# Altium integrated library NSC Interface.IntLib: 504 symbols (part 2 of 16)
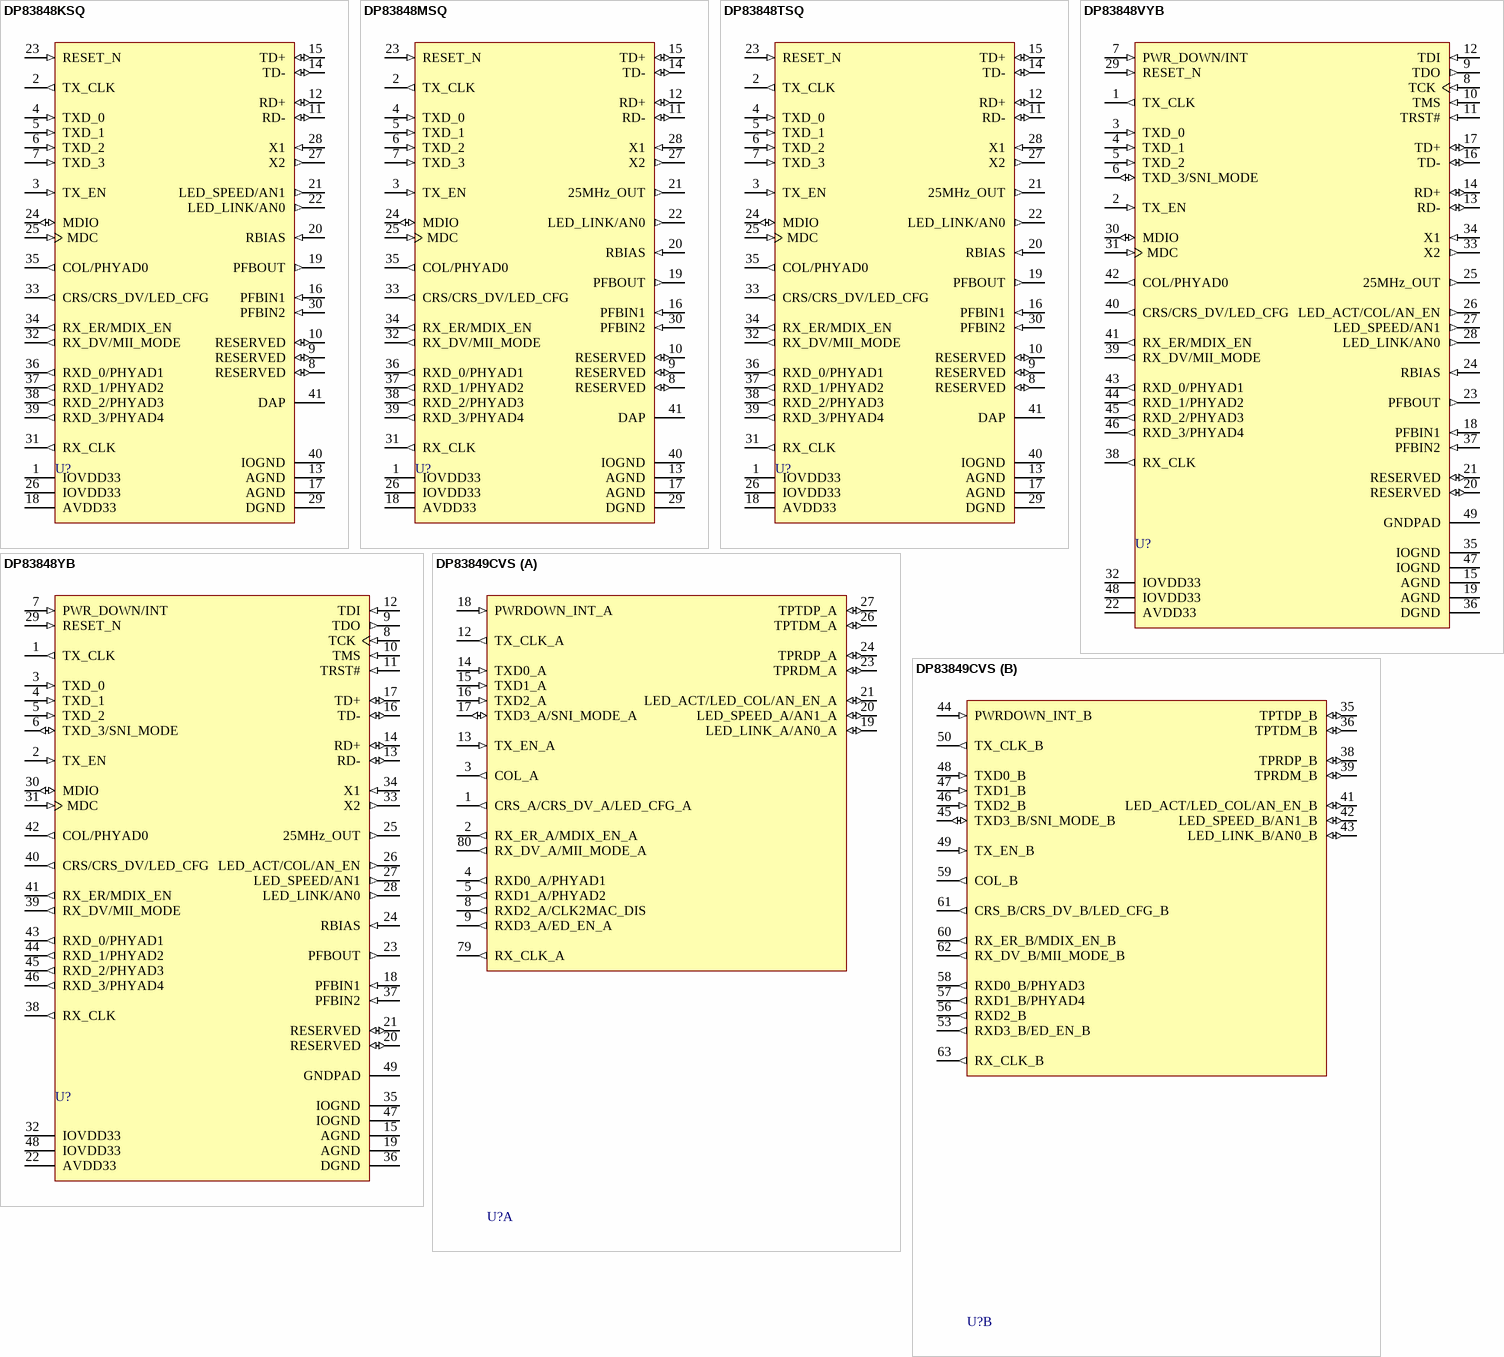
[diagram p42: symbols DP83848KSQ to DP83849CVS]

## DP83848YB
designator U?
PHYTER® Extreme Temperature Single Port 10/100 Mb/s Ethernet Physical Layer Transceiver; PartNumber: DP83848YB; Manufacturer: National Semiconductor; CompType: Interface IC; PackageTopMarking: NSUZXYTT*DP83848YB; PowerWise: N; Published: 4-Dec-2008; DatasheetVersion: Feb-2007; PackageVersion: revA, May-2005; PackageReference: VXH48A; Publisher: Altium Limited; PackageDescription: LQFP, 7 x 7 x 1.4mm, 48 Lead, 0.5mm Pitch, Exposed Pad, 2.2 x 2.2mm; RoHS: O; PinCount: 48; DigiKeyPartNumber: DP83848YBTR-ND; Code_JEDEC: MS-026-ABC; ComponentLink1Description: DP83848YB Datasheet; ComponentLink1URL: http://www.national.com/ds/DP/DP83848YB.pdf; ComponentLink2Description: DP83848YB Web Page; ComponentLink2URL: http://www.national.com/pf/DP/DP83848YB.html; ComponentLink3Description: VXH48A Package Page; ComponentLink3URL: http://www.national.com/packaging/folders/vxh48a.html
footprint VXH48A_N (Thin QFP, 48-Leads, Body 7x7mm, Pitch 0.5mm, Exposed Pad, IPC Medium Density)
footprint VXH48A_L (Thin QFP, 48-Leads, Body 7x7mm, Pitch 0.5mm, Exposed Pad, IPC High Density)
footprint VXH48A_M (Thin QFP, 48-Leads, Body 7x7mm, Pitch 0.5mm, Exposed Pad, IPC Low Density)
pins: 1 TX_CLK (out), 2 TX_EN (in), 3 TXD_0 (in), 4 TXD_1 (in), 5 TXD_2 (in), 6 TXD_3/SNI_MODE (io), 7 PWR_DOWN/INT (in), 8 TCK (in), 9 TDO (out), 10 TMS (in), 11 TRST# (in), 12 TDI (in), 13 RD- (io), 14 RD+ (io), 15 AGND (power), 16 TD- (io), 17 TD+ (io), 18 PFBIN1 (in), 19 AGND (power), 20 RESERVED (io), 21 RESERVED (io), 22 AVDD33 (power), 23 PFBOUT (out), 24 RBIAS (in), 25 25MHz_OUT (out), 26 LED_ACT/COL/AN_EN (out), 27 LED_SPEED/AN1 (out), 28 LED_LINK/AN0 (out), 29 RESET_N (in), 30 MDIO (io), 31 MDC (in), 32 IOVDD33 (power), 33 X2 (out), 34 X1 (in), 35 IOGND (power), 36 DGND (power), 37 PFBIN2 (in), 38 RX_CLK (out), 39 RX_DV/MII_MODE (out), 40 CRS/CRS_DV/LED_CFG (out), 41 RX_ER/MDIX_EN (out), 42 COL/PHYAD0 (out), 43 RXD_0/PHYAD1 (out), 44 RXD_1/PHYAD2 (out), 45 RXD_2/PHYAD3 (out), 46 RXD_3/PHYAD4 (out), 47 IOGND (power), 48 IOVDD33 (power), 49 GNDPAD (power)

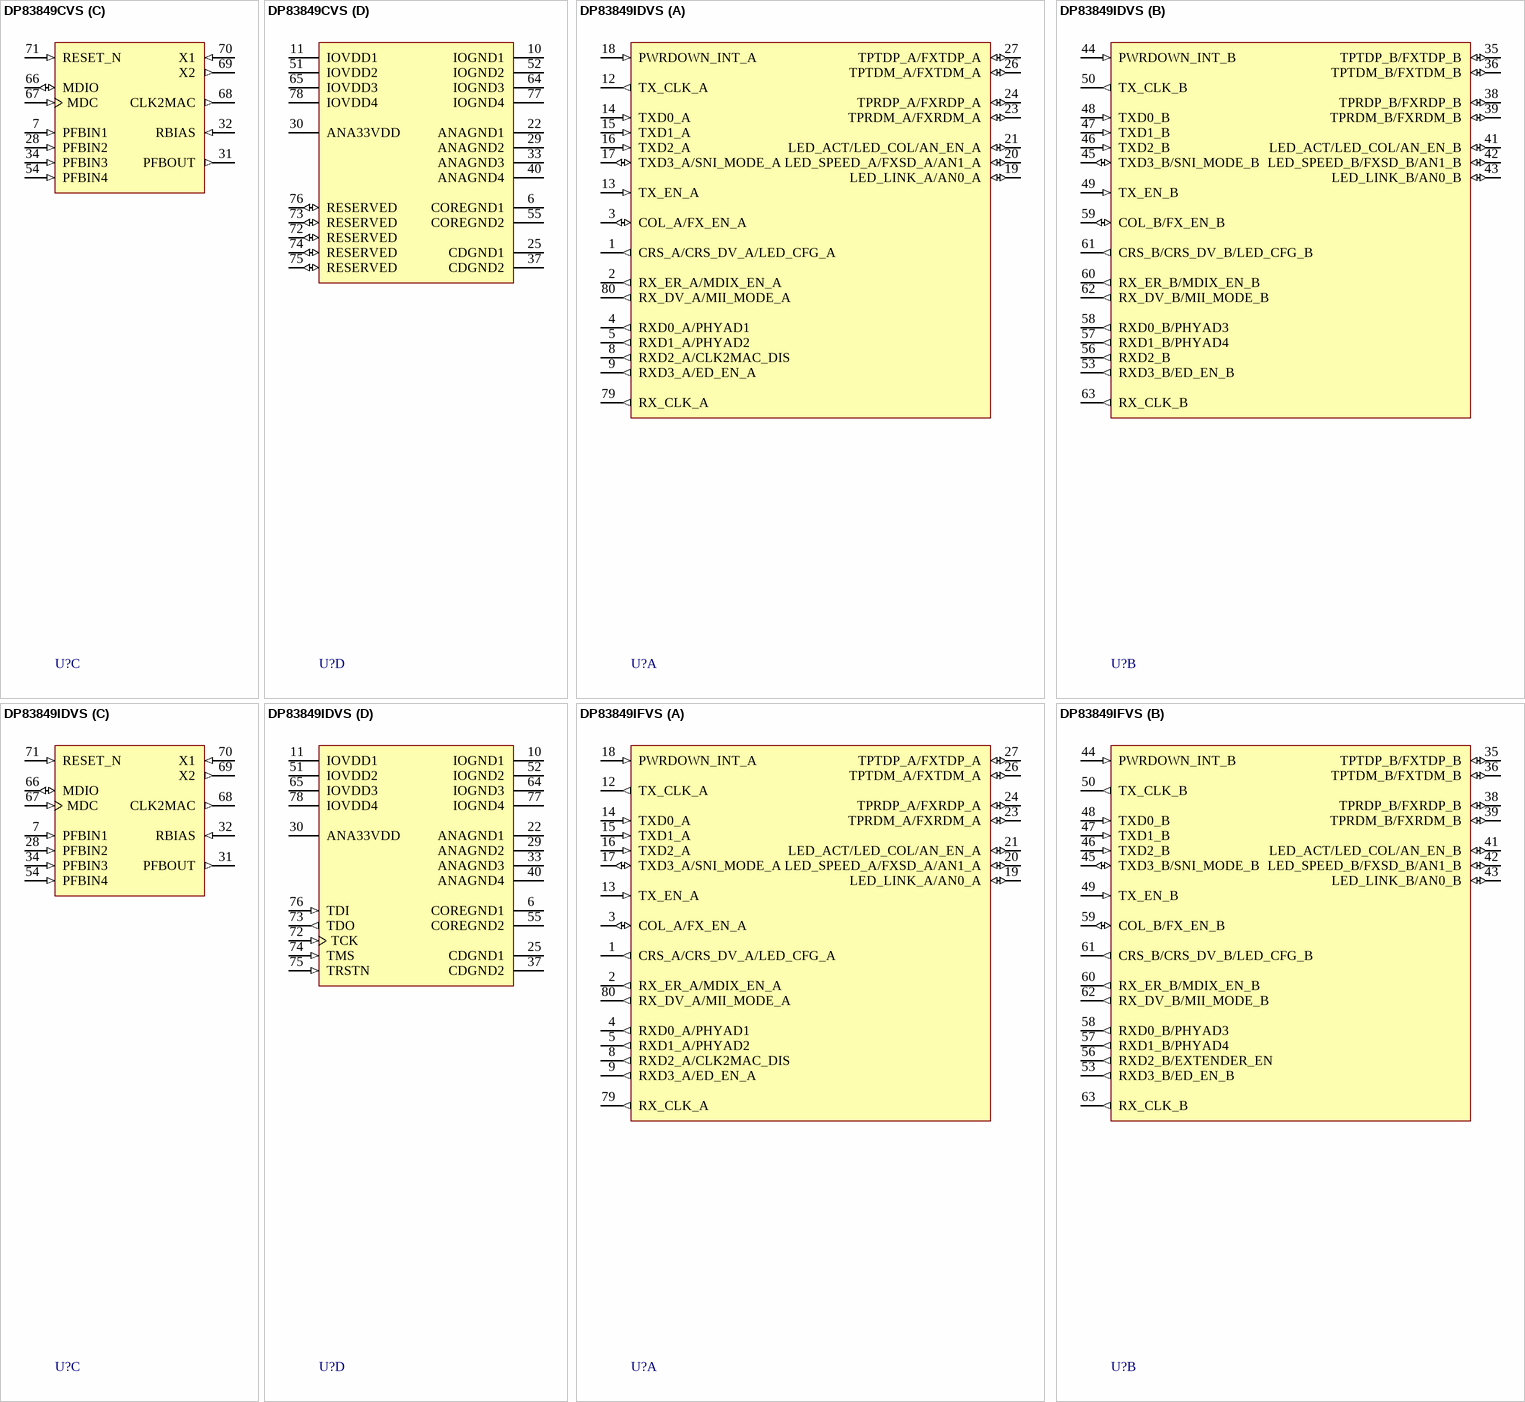
[diagram p4: symbols DP83849CVS to DP83849IFVS]

## DP83849CVS
designator U?
PHYTER® DUAL Commercial Temperature Dual Port 10/100 Mb/s Ethernet Physical Layer Transceiver; PartNumber: DP83849CVS; Manufacturer: National Semiconductor; CompType: Interface IC; PackageTopMarking: NSUZXYTT*DP83849CVS; PowerWise: N; Published: 4-Dec-2008; DatasheetVersion: Aug-2006; PackageVersion: revB, Dec-1999; PackageReference: VHB80A; Publisher: Altium Limited; PackageDescription: LQFP, Jedec, Metric, 12 x 12 x 1.0mm, 80 Lead; RoHS: O; PinCount: 80; DigiKeyPartNumber: DP83849CVS-ND; Code_JEDEC: MS-026-ADD; ComponentLink1Description: DP83849C Datasheet; ComponentLink1URL: http://www.national.com/ds/DP/DP83849C.pdf; ComponentLink2Description: DP83849C Web Page; ComponentLink2URL: http://www.national.com/pf/DP/DP83849C.html; ComponentLink3Description: VHB80A Package Page; ComponentLink3URL: http://www.national.com/packaging/folders/vhb80a.html
footprint VHB80A_N (Thin QFP, 80-Leads, Body 12x12mm, Pitch 0.5mm, IPC Medium Density)
footprint VHB80A_L (Thin QFP, 80-Leads, Body 12x12mm, Pitch 0.5mm, IPC High Density)
footprint VHB80A_M (Thin QFP, 80-Leads, Body 12x12mm, Pitch 0.5mm, IPC Low Density)
part A pins: 1 CRS_A/CRS_DV_A/LED_CFG_A (out), 2 RX_ER_A/MDIX_EN_A (out), 3 COL_A (out), 4 RXD0_A/PHYAD1 (out), 5 RXD1_A/PHYAD2 (out), 8 RXD2_A/CLK2MAC_DIS (out), 9 RXD3_A/ED_EN_A (out), 12 TX_CLK_A (out), 13 TX_EN_A (in), 14 TXD0_A (in), 15 TXD1_A (in), 16 TXD2_A (in), 17 TXD3_A/SNI_MODE_A (io), 18 PWRDOWN_INT_A (in), 19 LED_LINK_A/AN0_A (io), 20 LED_SPEED_A/AN1_A (io), 21 LED_ACT/LED_COL/AN_EN_A (io), 23 TPRDM_A (io), 24 TPRDP_A (io), 26 TPTDM_A (io), 27 TPTDP_A (io), 79 RX_CLK_A (out), 80 RX_DV_A/MII_MODE_A (out)
part B pins: 35 TPTDP_B (io), 36 TPTDM_B (io), 38 TPRDP_B (io), 39 TPRDM_B (io), 41 LED_ACT/LED_COL/AN_EN_B (io), 42 LED_SPEED_B/AN1_B (io), 43 LED_LINK_B/AN0_B (io), 44 PWRDOWN_INT_B (in), 45 TXD3_B/SNI_MODE_B (io), 46 TXD2_B (in), 47 TXD1_B (in), 48 TXD0_B (in), 49 TX_EN_B (in), 50 TX_CLK_B (out), 53 RXD3_B/ED_EN_B (out), 56 RXD2_B (out), 57 RXD1_B/PHYAD4 (out), 58 RXD0_B/PHYAD3 (out), 59 COL_B (out), 60 RX_ER_B/MDIX_EN_B (out), 61 CRS_B/CRS_DV_B/LED_CFG_B (out), 62 RX_DV_B/MII_MODE_B (out), 63 RX_CLK_B (out)
part C pins: 7 PFBIN1 (in), 28 PFBIN2 (in), 31 PFBOUT (out), 32 RBIAS (in), 34 PFBIN3 (in), 54 PFBIN4 (in), 66 MDIO (io), 67 MDC (in), 68 CLK2MAC (out), 69 X2 (out), 70 X1 (in), 71 RESET_N (in)
part D pins: 6 COREGND1 (power), 10 IOGND1 (power), 11 IOVDD1 (power), 22 ANAGND1 (power), 25 CDGND1 (power), 29 ANAGND2 (power), 30 ANA33VDD (power), 33 ANAGND3 (power), 37 CDGND2 (power), 40 ANAGND4 (power), 51 IOVDD2 (power), 52 IOGND2 (power), 55 COREGND2 (power), 64 IOGND3 (power), 65 IOVDD3 (power), 72 RESERVED (io), 73 RESERVED (io), 74 RESERVED (io), 75 RESERVED (io), 76 RESERVED (io), 77 IOGND4 (power), 78 IOVDD4 (power)

## DP83849IDVS
designator U?
PHYTER® DUAL Industrial Temperature with Fiber Support (FX), Dual Port 10/100 Mb/s Ethernet Physical Layer Transceiver; PartNumber: DP83849IDVS; Manufacturer: National Semiconductor; CompType: Interface IC; PackageTopMarking: NSUZXYTT*DP83849IDVS; PowerWise: N; Published: 4-Dec-2008; DatasheetVersion: Aug-2006; PackageVersion: revB, Dec-1999; PackageReference: VHB80A; Publisher: Altium Limited; PackageDescription: LQFP, Jedec, Metric, 12 x 12 x 1.0mm, 80 Lead; RoHS: O; PinCount: 80; DigiKeyPartNumber: DP83849IDVS-ND; Code_JEDEC: MS-026-ADD; ComponentLink1Description: DP83849ID Datasheet; ComponentLink1URL: http://www.national.com/ds/DP/DP83849ID.pdf; ComponentLink2Description: DP83849ID Web Page; ComponentLink2URL: http://www.national.com/pf/DP/DP83849ID.html; ComponentLink3Description: VHB80A Package Page; ComponentLink3URL: http://www.national.com/packaging/folders/vhb80a.html
footprint VHB80A_N (Thin QFP, 80-Leads, Body 12x12mm, Pitch 0.5mm, IPC Medium Density)
footprint VHB80A_L (Thin QFP, 80-Leads, Body 12x12mm, Pitch 0.5mm, IPC High Density)
footprint VHB80A_M (Thin QFP, 80-Leads, Body 12x12mm, Pitch 0.5mm, IPC Low Density)
part A pins: 1 CRS_A/CRS_DV_A/LED_CFG_A (out), 2 RX_ER_A/MDIX_EN_A (out), 3 COL_A/FX_EN_A (io), 4 RXD0_A/PHYAD1 (out), 5 RXD1_A/PHYAD2 (out), 8 RXD2_A/CLK2MAC_DIS (out), 9 RXD3_A/ED_EN_A (out), 12 TX_CLK_A (out), 13 TX_EN_A (in), 14 TXD0_A (in), 15 TXD1_A (in), 16 TXD2_A (in), 17 TXD3_A/SNI_MODE_A (io), 18 PWRDOWN_INT_A (in), 19 LED_LINK_A/AN0_A (io), 20 LED_SPEED_A/FXSD_A/AN1_A (io), 21 LED_ACT/LED_COL/AN_EN_A (io), 23 TPRDM_A/FXRDM_A (io), 24 TPRDP_A/FXRDP_A (io), 26 TPTDM_A/FXTDM_A (io), 27 TPTDP_A/FXTDP_A (io), 79 RX_CLK_A (out), 80 RX_DV_A/MII_MODE_A (out)
part B pins: 35 TPTDP_B/FXTDP_B (io), 36 TPTDM_B/FXTDM_B (io), 38 TPRDP_B/FXRDP_B (io), 39 TPRDM_B/FXRDM_B (io), 41 LED_ACT/LED_COL/AN_EN_B (io), 42 LED_SPEED_B/FXSD_B/AN1_B (io), 43 LED_LINK_B/AN0_B (io), 44 PWRDOWN_INT_B (in), 45 TXD3_B/SNI_MODE_B (io), 46 TXD2_B (in), 47 TXD1_B (in), 48 TXD0_B (in), 49 TX_EN_B (in), 50 TX_CLK_B (out), 53 RXD3_B/ED_EN_B (out), 56 RXD2_B (out), 57 RXD1_B/PHYAD4 (out), 58 RXD0_B/PHYAD3 (out), 59 COL_B/FX_EN_B (io), 60 RX_ER_B/MDIX_EN_B (out), 61 CRS_B/CRS_DV_B/LED_CFG_B (out), 62 RX_DV_B/MII_MODE_B (out), 63 RX_CLK_B (out)
part C pins: 7 PFBIN1 (in), 28 PFBIN2 (in), 31 PFBOUT (out), 32 RBIAS (in), 34 PFBIN3 (in), 54 PFBIN4 (in), 66 MDIO (io), 67 MDC (in), 68 CLK2MAC (out), 69 X2 (out), 70 X1 (in), 71 RESET_N (in)
part D pins: 6 COREGND1 (power), 10 IOGND1 (power), 11 IOVDD1 (power), 22 ANAGND1 (power), 25 CDGND1 (power), 29 ANAGND2 (power), 30 ANA33VDD (power), 33 ANAGND3 (power), 37 CDGND2 (power), 40 ANAGND4 (power), 51 IOVDD2 (power), 52 IOGND2 (power), 55 COREGND2 (power), 64 IOGND3 (power), 65 IOVDD3 (power), 72 TCK (in), 73 TDO (out), 74 TMS (in), 75 TRSTN (in), 76 TDI (in), 77 IOGND4 (power), 78 IOVDD4 (power)

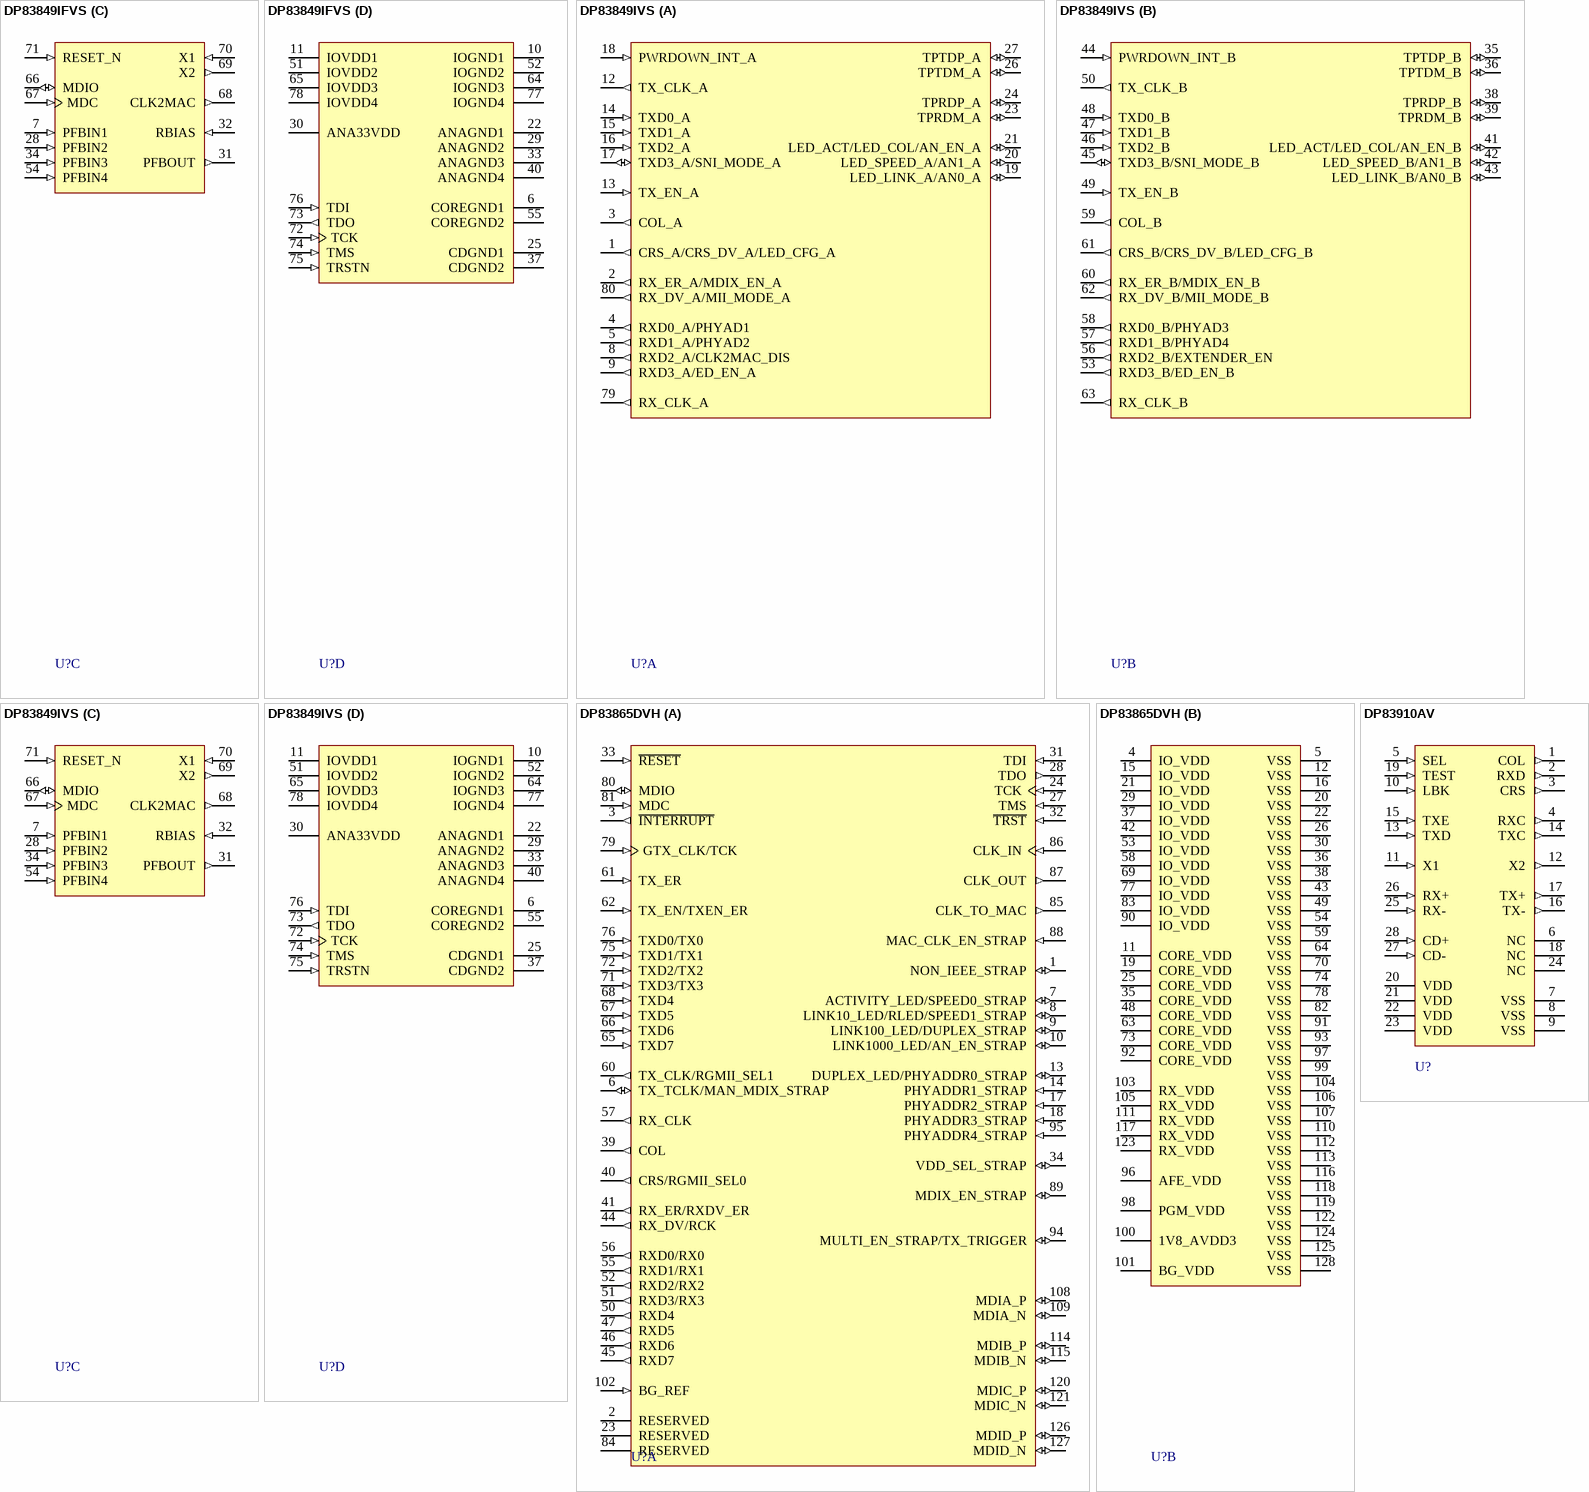
[diagram p5: symbols DP83849IFVS to DP83910AV]

## DP83849IFVS
designator U?
PHYTER® DUAL Industrial Temperature with Fiber Support (FX) and Flexible Port Switching Dual Port 10/100 Mb/s Ethernet Physical Layer Transceiver; PartNumber: DP83849IFVS; Manufacturer: National Semiconductor; CompType: Interface IC; PackageTopMarking: NSUZXYTT*DP83849IFVS; PowerWise: N; Published: 4-Dec-2008; DatasheetVersion: Aug-2006; PackageVersion: revB, Dec-1999; PackageReference: VHB80A; Publisher: Altium Limited; PackageDescription: LQFP, Jedec, Metric, 12 x 12 x 1.0mm, 80 Lead; RoHS: O; PinCount: 80; DigiKeyPartNumber: DP83849IFVS-ND; Code_JEDEC: MS-026-ADD; ComponentLink1Description: DP83849IF Datasheet; ComponentLink1URL: http://www.national.com/ds/DP/DP83849IF.pdf; ComponentLink2Description: DP83849IF Web Page; ComponentLink2URL: http://www.national.com/pf/DP/DP83849IF.html; ComponentLink3Description: VHB80A Package Page; ComponentLink3URL: http://www.national.com/packaging/folders/vhb80a.html
footprint VHB80A_N (Thin QFP, 80-Leads, Body 12x12mm, Pitch 0.5mm, IPC Medium Density)
footprint VHB80A_L (Thin QFP, 80-Leads, Body 12x12mm, Pitch 0.5mm, IPC High Density)
footprint VHB80A_M (Thin QFP, 80-Leads, Body 12x12mm, Pitch 0.5mm, IPC Low Density)
part A pins: 1 CRS_A/CRS_DV_A/LED_CFG_A (out), 2 RX_ER_A/MDIX_EN_A (out), 3 COL_A/FX_EN_A (io), 4 RXD0_A/PHYAD1 (out), 5 RXD1_A/PHYAD2 (out), 8 RXD2_A/CLK2MAC_DIS (out), 9 RXD3_A/ED_EN_A (out), 12 TX_CLK_A (out), 13 TX_EN_A (in), 14 TXD0_A (in), 15 TXD1_A (in), 16 TXD2_A (in), 17 TXD3_A/SNI_MODE_A (io), 18 PWRDOWN_INT_A (in), 19 LED_LINK_A/AN0_A (io), 20 LED_SPEED_A/FXSD_A/AN1_A (io), 21 LED_ACT/LED_COL/AN_EN_A (io), 23 TPRDM_A/FXRDM_A (io), 24 TPRDP_A/FXRDP_A (io), 26 TPTDM_A/FXTDM_A (io), 27 TPTDP_A/FXTDP_A (io), 79 RX_CLK_A (out), 80 RX_DV_A/MII_MODE_A (out)
part B pins: 35 TPTDP_B/FXTDP_B (io), 36 TPTDM_B/FXTDM_B (io), 38 TPRDP_B/FXRDP_B (io), 39 TPRDM_B/FXRDM_B (io), 41 LED_ACT/LED_COL/AN_EN_B (io), 42 LED_SPEED_B/FXSD_B/AN1_B (io), 43 LED_LINK_B/AN0_B (io), 44 PWRDOWN_INT_B (in), 45 TXD3_B/SNI_MODE_B (io), 46 TXD2_B (in), 47 TXD1_B (in), 48 TXD0_B (in), 49 TX_EN_B (in), 50 TX_CLK_B (out), 53 RXD3_B/ED_EN_B (out), 56 RXD2_B/EXTENDER_EN (out), 57 RXD1_B/PHYAD4 (out), 58 RXD0_B/PHYAD3 (out), 59 COL_B/FX_EN_B (io), 60 RX_ER_B/MDIX_EN_B (out), 61 CRS_B/CRS_DV_B/LED_CFG_B (out), 62 RX_DV_B/MII_MODE_B (out), 63 RX_CLK_B (out)
part C pins: 7 PFBIN1 (in), 28 PFBIN2 (in), 31 PFBOUT (out), 32 RBIAS (in), 34 PFBIN3 (in), 54 PFBIN4 (in), 66 MDIO (io), 67 MDC (in), 68 CLK2MAC (out), 69 X2 (out), 70 X1 (in), 71 RESET_N (in)
part D pins: 6 COREGND1 (power), 10 IOGND1 (power), 11 IOVDD1 (power), 22 ANAGND1 (power), 25 CDGND1 (power), 29 ANAGND2 (power), 30 ANA33VDD (power), 33 ANAGND3 (power), 37 CDGND2 (power), 40 ANAGND4 (power), 51 IOVDD2 (power), 52 IOGND2 (power), 55 COREGND2 (power), 64 IOGND3 (power), 65 IOVDD3 (power), 72 TCK (in), 73 TDO (out), 74 TMS (in), 75 TRSTN (in), 76 TDI (in), 77 IOGND4 (power), 78 IOVDD4 (power)

## DP83849IVS
designator U?
PHYTER® DUAL Industrial Temperature with Flexible Port Switching Dual Port 10/100 Mb/s Ethernet Physical Layer Transceiver; PartNumber: DP83849IVS; Manufacturer: National Semiconductor; CompType: Interface IC; PackageTopMarking: NSUZXYTT*DP83849IVS; PowerWise: N; Published: 4-Dec-2008; DatasheetVersion: Aug-2006; PackageVersion: revB, Dec-1999; PackageReference: VHB80A; Publisher: Altium Limited; PackageDescription: LQFP, Jedec, Metric, 12 x 12 x 1.0mm, 80 Lead; RoHS: O; PinCount: 80; DigiKeyPartNumber: DP83849IVSTR-ND; Code_JEDEC: MS-026-ADD; ComponentLink1Description: DP83849I Datasheet; ComponentLink1URL: http://www.national.com/ds/DP/DP83849I.pdf; ComponentLink2Description: DP83849I Web Page; ComponentLink2URL: http://www.national.com/pf/DP/DP83849I.html; ComponentLink3Description: VHB80A Package Page; ComponentLink3URL: http://www.national.com/packaging/folders/vhb80a.html
footprint VHB80A_N (Thin QFP, 80-Leads, Body 12x12mm, Pitch 0.5mm, IPC Medium Density)
footprint VHB80A_L (Thin QFP, 80-Leads, Body 12x12mm, Pitch 0.5mm, IPC High Density)
footprint VHB80A_M (Thin QFP, 80-Leads, Body 12x12mm, Pitch 0.5mm, IPC Low Density)
part A pins: 1 CRS_A/CRS_DV_A/LED_CFG_A (out), 2 RX_ER_A/MDIX_EN_A (out), 3 COL_A (out), 4 RXD0_A/PHYAD1 (out), 5 RXD1_A/PHYAD2 (out), 8 RXD2_A/CLK2MAC_DIS (out), 9 RXD3_A/ED_EN_A (out), 12 TX_CLK_A (out), 13 TX_EN_A (in), 14 TXD0_A (in), 15 TXD1_A (in), 16 TXD2_A (in), 17 TXD3_A/SNI_MODE_A (io), 18 PWRDOWN_INT_A (in), 19 LED_LINK_A/AN0_A (io), 20 LED_SPEED_A/AN1_A (io), 21 LED_ACT/LED_COL/AN_EN_A (io), 23 TPRDM_A (io), 24 TPRDP_A (io), 26 TPTDM_A (io), 27 TPTDP_A (io), 79 RX_CLK_A (out), 80 RX_DV_A/MII_MODE_A (out)
part B pins: 35 TPTDP_B (io), 36 TPTDM_B (io), 38 TPRDP_B (io), 39 TPRDM_B (io), 41 LED_ACT/LED_COL/AN_EN_B (io), 42 LED_SPEED_B/AN1_B (io), 43 LED_LINK_B/AN0_B (io), 44 PWRDOWN_INT_B (in), 45 TXD3_B/SNI_MODE_B (io), 46 TXD2_B (in), 47 TXD1_B (in), 48 TXD0_B (in), 49 TX_EN_B (in), 50 TX_CLK_B (out), 53 RXD3_B/ED_EN_B (out), 56 RXD2_B/EXTENDER_EN (out), 57 RXD1_B/PHYAD4 (out), 58 RXD0_B/PHYAD3 (out), 59 COL_B (out), 60 RX_ER_B/MDIX_EN_B (out), 61 CRS_B/CRS_DV_B/LED_CFG_B (out), 62 RX_DV_B/MII_MODE_B (out), 63 RX_CLK_B (out)
part C pins: 7 PFBIN1 (in), 28 PFBIN2 (in), 31 PFBOUT (out), 32 RBIAS (in), 34 PFBIN3 (in), 54 PFBIN4 (in), 66 MDIO (io), 67 MDC (in), 68 CLK2MAC (out), 69 X2 (out), 70 X1 (in), 71 RESET_N (in)
part D pins: 6 COREGND1 (power), 10 IOGND1 (power), 11 IOVDD1 (power), 22 ANAGND1 (power), 25 CDGND1 (power), 29 ANAGND2 (power), 30 ANA33VDD (power), 33 ANAGND3 (power), 37 CDGND2 (power), 40 ANAGND4 (power), 51 IOVDD2 (power), 52 IOGND2 (power), 55 COREGND2 (power), 64 IOGND3 (power), 65 IOVDD3 (power), 72 TCK (in), 73 TDO (out), 74 TMS (in), 75 TRSTN (in), 76 TDI (in), 77 IOGND4 (power), 78 IOVDD4 (power)

## DP83865DVH
designator U?
Gig PHYTER® V 10/100/1000 Ethernet Physical Layer; PartNumber: DP83865DVH; Manufacturer: National Semiconductor; CompType: Interface IC; PackageTopMarking: NSUZXYYTTE#*DP83865DVH; PowerWise: N; Published: 4-Dec-2008; DatasheetVersion: Oct-2004; PackageVersion: revC, Jun-1998; PackageReference: VLA128A; Publisher: Altium Limited; PackageDescription: PQFP, (S), 14 x 20 x 2.7mm, 128 Lead; RoHS: O; PinCount: 128; DigiKeyPartNumber: DP83865DVH-ND; ComponentLink1Description: DP83865 Datasheet; ComponentLink1URL: http://www.national.com/ds/DP/DP83865.pdf; ComponentLink2Description: DP83865 Web Page; ComponentLink2URL: http://www.national.com/pf/DP/DP83865.html; ComponentLink3Description: VLA128A Package Page; ComponentLink3URL: http://www.national.com/packaging/folders/vla128a.html
footprint VLA128A_N (Shrink QFP, 128-Leads, Body 20x14 mm, Pitch 0.5mm, IPC Medium Density)
footprint VLA128A_L (Shrink QFP, 128-Leads, Body 20x14 mm, Pitch 0.5mm, IPC High Density)
footprint VLA128A_M (Shrink QFP, 128-Leads, Body 20x14 mm, Pitch 0.5mm, IPC Low Density)
part A pins: 1 NON_IEEE_STRAP (io), 2 RESERVED, 3 ~{INTERRUPT} (out), 6 TX_TCLK/MAN_MDIX_STRAP (io), 7 ACTIVITY_LED/SPEED0_STRAP (io), 8 LINK10_LED/RLED/SPEED1_STRAP (io), 9 LINK100_LED/DUPLEX_STRAP (io), 10 LINK1000_LED/AN_EN_STRAP (io), 13 DUPLEX_LED/PHYADDR0_STRAP (io), 14 PHYADDR1_STRAP (in), 17 PHYADDR2_STRAP (in), 18 PHYADDR3_STRAP (in), 23 RESERVED, 24 TCK (in), 27 TMS (in), 28 TDO (out), 31 TDI (in), 32 ~{TRST} (in), 33 ~{RESET} (in), 34 VDD_SEL_STRAP (io), 39 COL (out), 40 CRS/RGMII_SEL0 (out), 41 RX_ER/RXDV_ER (out), 44 RX_DV/RCK (out), 45 RXD7 (out), 46 RXD6 (out), 47 RXD5 (out), 50 RXD4 (out), 51 RXD3/RX3 (out), 52 RXD2/RX2 (out), 55 RXD1/RX1 (out), 56 RXD0/RX0 (out), 57 RX_CLK (out), 60 TX_CLK/RGMII_SEL1 (out), 61 TX_ER (in), 62 TX_EN/TXEN_ER (in), 65 TXD7 (in), 66 TXD6 (in), 67 TXD5 (in), 68 TXD4 (in), 71 TXD3/TX3 (in), 72 TXD2/TX2 (in), 75 TXD1/TX1 (in), 76 TXD0/TX0 (in), 79 GTX_CLK/TCK (in), 80 MDIO (io), 81 MDC (in), 84 RESERVED, 85 CLK_TO_MAC (out), 86 CLK_IN (in), 87 CLK_OUT (out), 88 MAC_CLK_EN_STRAP (in), 89 MDIX_EN_STRAP (io), 94 MULTI_EN_STRAP/TX_TRIGGER (io), 95 PHYADDR4_STRAP (in), 102 BG_REF (in), 108 MDIA_P (io), 109 MDIA_N (io), 114 MDIB_P (io), 115 MDIB_N (io), 120 MDIC_P (io), 121 MDIC_N (io), 126 MDID_P (io), 127 MDID_N (io)
part B pins: 4 IO_VDD (power), 5 VSS (power), 11 CORE_VDD (power), 12 VSS (power), 15 IO_VDD (power), 16 VSS (power), 19 CORE_VDD (power), 20 VSS (power), 21 IO_VDD (power), 22 VSS (power), 25 CORE_VDD (power), 26 VSS (power), 29 IO_VDD (power), 30 VSS (power), 35 CORE_VDD (power), 36 VSS (power), 37 IO_VDD (power), 38 VSS (power), 42 IO_VDD (power), 43 VSS (power), 48 CORE_VDD (power), 49 VSS (power), 53 IO_VDD (power), 54 VSS (power), 58 IO_VDD (power), 59 VSS (power), 63 CORE_VDD (power), 64 VSS (power), 69 IO_VDD (power), 70 VSS (power), 73 CORE_VDD (power), 74 VSS (power), 77 IO_VDD (power), 78 VSS (power), 82 VSS (power), 83 IO_VDD (power), 90 IO_VDD (power), 91 VSS (power), 92 CORE_VDD (power), 93 VSS (power), 96 AFE_VDD (power), 97 VSS (power), 98 PGM_VDD (power), 99 VSS (power), 100 1V8_AVDD3 (power), 101 BG_VDD (power), 103 RX_VDD (power), 104 VSS (power), 105 RX_VDD (power), 106 VSS (power), 107 VSS (power), 110 VSS (power), 111 RX_VDD (power), 112 VSS (power), 113 VSS (power), 116 VSS (power), 117 RX_VDD (power), 118 VSS (power), 119 VSS (power), 122 VSS (power), 123 RX_VDD (power), 124 VSS (power), 125 VSS (power), 128 VSS (power)

## DP83910AV
designator U?
CMOS SNI Serial Network Interface; PartNumber: DP83910AV; Manufacturer: National Semiconductor; CompType: Interface IC; PackageTopMarking: NSUZXYYTT*DP83910AV; PowerWise: N; Published: 4-Dec-2008; DatasheetVersion: May-1995; PackageVersion: revK, Dec-1993; PackageReference: V28A; Publisher: Altium Limited; PackageDescription: Plastic Chip Carrier, Sq., .050mil Lead Pitch, 28 Lead; RoHS: O; PinCount: 28; DigiKeyPartNumber: DP83910AV-ND; Code_IPC: PLCC-28; ComponentLink1Description: DP83910A Datasheet; ComponentLink1URL: http://www.national.com/ds/DP/DP83910A.pdf; ComponentLink2Description: DP83910A Web Page; ComponentLink2URL: http://www.national.com/pf/DP/DP83910A.html; ComponentLink3Description: V28A Package Page; ComponentLink3URL: http://www.national.com/packaging/folders/v28a.html
footprint V28A_N (Leaded Chip Carrier, 28-Leads, Body 11.5x11.5mm, Pitch 1.27mm, IPC Medium Density)
footprint V28A_L (Leaded Chip Carrier, 28-Leads, Body 11.5x11.5mm, Pitch 1.27mm, IPC High Density)
footprint V28A_M (Leaded Chip Carrier, 28-Leads, Body 11.5x11.5mm, Pitch 1.27mm, IPC Low Density)
pins: 1 COL (out), 2 RXD (out), 3 CRS (out), 4 RXC (out), 5 SEL (in), 6 NC, 7 VSS (power), 8 VSS (power), 9 VSS (power), 10 LBK (in), 11 X1 (in), 12 X2 (out), 13 TXD (in), 14 TXC (out), 15 TXE (in), 16 TX- (out), 17 TX+ (out), 18 NC, 19 TEST (in), 20 VDD (power), 21 VDD (power), 22 VDD (power), 23 VDD (power), 24 NC, 25 RX- (in), 26 RX+ (in), 27 CD- (in), 28 CD+ (in)

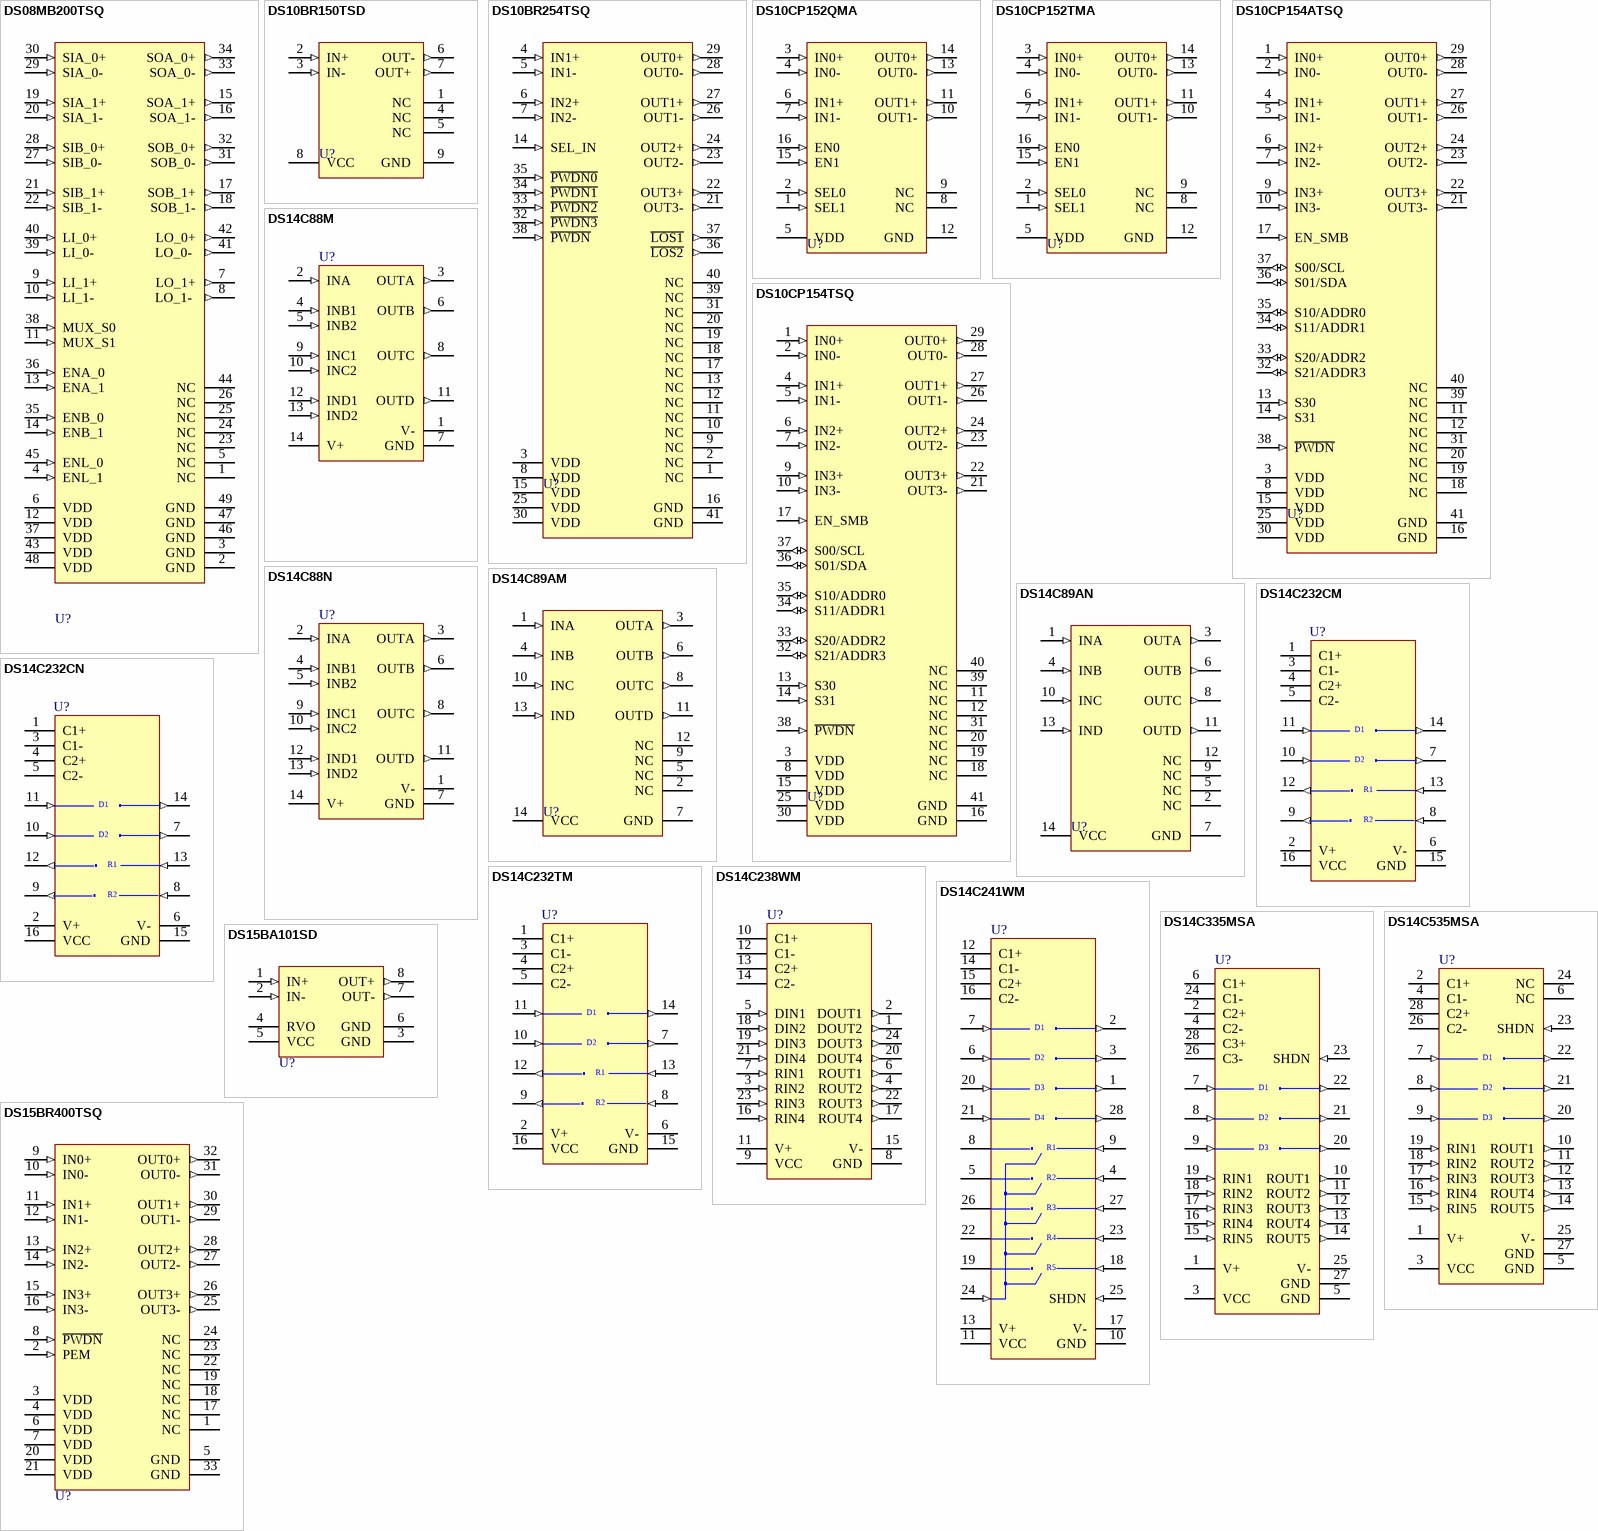
[diagram p6: symbols DS08MB200TSQ to DS15BR400TSQ]

## DS08MB200TSQ
designator U?
Dual 800 Mbps 2:1/1:2 LVDS Mux/Buffer; PartNumber: DS08MB200TSQ; Manufacturer: National Semiconductor; CompType: Interface IC; PackageTopMarking: NS*UZXYTT*08MB200; PowerWise: N; Published: 4-Dec-2008; DatasheetVersion: Nov-2007; PackageVersion: revA, May-2003; PackageReference: SQA48A; Publisher: Altium Limited; PackageDescription: LLP, Plastic, Quad, 7 x 7 x 0.8mm Body, 48 Lead, 0.5mm Pitch, No Pullback; RoHS: Y; PinCount: 48; DigiKeyPartNumber: DS08MB200TSQTR-ND; Code_JEDEC: MO-220-WKKD-2; ComponentLink1Description: DS08MB200 Datasheet; ComponentLink1URL: http://www.national.com/ds/DS/DS08MB200.pdf; ComponentLink2Description: DS08MB200 Web Page; ComponentLink2URL: http://www.national.com/pf/DS/DS08MB200.html; ComponentLink3Description: SQA48A Package Page; ComponentLink3URL: http://www.national.com/packaging/folders/sqa48a.html
footprint SQA48A (QFN, 48-Leads, Body 7x7mm, Pitch 0.5mm, NSC Recommended)
pins: 1 NC, 2 GND (power), 3 GND (power), 4 ENL_1  (in), 5 NC, 6 VDD (power), 7 LO_1+ (out), 8 LO_1-  (out), 9 LI_1+ (in), 10 LI_1-  (in), 11 MUX_S1  (in), 12 VDD (power), 13 ENA_1  (in), 14 ENB_1  (in), 15 SOA_1+ (out), 16 SOA_1- (out), 17 SOB_1+ (out), 18 SOB_1- (out), 19 SIA_1+ (in), 20 SIA_1- (in), 21 SIB_1+ (in), 22 SIB_1- (in), 23 NC, 24 NC, 25 NC, 26 NC, 27 SIB_0- (in), 28 SIB_0+ (in), 29 SIA_0- (in), 30 SIA_0+ (in), 31 SOB_0- (out), 32 SOB_0+ (out), 33 SOA_0- (out), 34 SOA_0+ (out), 35 ENB_0  (in), 36 ENA_0  (in), 37 VDD (power), 38 MUX_S0  (in), 39 LI_0-  (in), 40 LI_0+ (in), 41 LO_0-  (out), 42 LO_0+ (out), 43 VDD (power), 44 NC, 45 ENL_0  (in), 46 GND (power), 47 GND (power), 48 VDD (power), 49 GND (power)

## DS10BR150TSD
designator U?
1.0 Gbps LVDS Buffer/Repeater; PartNumber: DS10BR150TSD; Manufacturer: National Semiconductor; CompType: Interface IC; PackageTopMarking: ZXYTT*1R150; PowerWise: N; Published: 4-Dec-2008; DatasheetVersion: Nov-2007; PackageVersion: revA, Aug-2003; PackageReference: SDA08A; Publisher: Altium Limited; PackageDescription: LLP, Plastic, Dual, 3 x 3 x 0.8mm Body, 8 Lead, 0.5mm Pitch, No Pullback; RoHS: Y; PinCount: 8; DigiKeyPartNumber: DS10BR150TSDTR-ND; ComponentLink1Description: DS10BR150 Datasheet; ComponentLink1URL: http://www.national.com/ds/DS/DS10BR150.pdf; ComponentLink2Description: DS10BR150 Web Page; ComponentLink2URL: http://www.national.com/pf/DS/DS10BR150.html; ComponentLink3Description: SDA08A Package Page; ComponentLink3URL: http://www.national.com/packaging/folders/sda08a.html
footprint SDA08A (SON, 8-Leads, Body 3x3mm, Pitch 0.5mm, NSC Recommended)
pins: 1 NC , 2 IN+  (in), 3 IN- (in), 4 NC , 5 NC , 6 OUT- (out), 7 OUT+  (out), 8 VCC  (power), 9 GND  (power)

## DS10BR254TSQ
designator U?
1.5 Gbps 1:4 LVDS Repeater; PartNumber: DS10BR254TSQ; Manufacturer: National Semiconductor; CompType: Interface IC; PackageTopMarking: NS*UZXYTT*1BR254SQ; PowerWise: N; Published: 4-Dec-2008; DatasheetVersion: Apr-2008; PackageVersion: revB, Mar-2004; PackageReference: SQA40A; Publisher: Altium Limited; PackageDescription: LLP, Plastic, Quad, 6 x 6 x 0.8mm Body, 40 Lead, 0.5mm Pitch, No Pullback; RoHS: Y; PinCount: 40; DigiKeyPartNumber: DS10BR254TSQTR-ND; ComponentLink1Description: DS10BR254 Datasheet; ComponentLink1URL: http://www.national.com/ds/DS/DS10BR254.pdf; ComponentLink2Description: DS10BR254 Web Page; ComponentLink2URL: http://www.national.com/pf/DS/DS10BR254.html; ComponentLink3Description: SQA40A Package Page; ComponentLink3URL: http://www.national.com/packaging/folders/sqa40a.html
footprint SQA40A (QFN, 40-Leads, Body 6x6mm, Pitch 0.5mm, NSC Recommended)
pins: 1 NC, 2 NC, 3 VDD (power), 4 IN1+ (in), 5 IN1- (in), 6 IN2+ (in), 7 IN2- (in), 8 VDD (power), 9 NC, 10 NC, 11 NC, 12 NC, 13 NC, 14 SEL_IN (in), 15 VDD (power), 16 GND (power), 17 NC, 18 NC, 19 NC, 20 NC, 21 OUT3- (out), 22 OUT3+ (out), 23 OUT2- (out), 24 OUT2+ (out), 25 VDD (power), 26 OUT1- (out), 27 OUT1+ (out), 28 OUT0- (out), 29 OUT0+ (out), 30 VDD (power), 31 NC, 32 ~{PWDN3} (in), 33 ~{PWDN2} (in), 34 ~{PWDN1} (in), 35 ~{PWDN0} (in), 36 ~{LOS2} (out), 37 ~{LOS1} (out), 38 ~{PWDN} (in), 39 NC, 40 NC, 41 GND (power)

## DS10CP152QMA
designator U?
Automotive 1.5 Gbps 2X2 LVDS Crosspoint Switch; PartNumber: DS10CP152QMA; Manufacturer: National Semiconductor; CompType: Interface IC; PackageTopMarking: NSUZXYTT*DS10CP152*QMA; PowerWise: N; Published: 4-Dec-2008; DatasheetVersion: Jun-2008; PackageVersion: revJ, Aug-1995; PackageReference: M16A; Publisher: Altium Limited; RoHS: Y; PinCount: 16; DigiKeyPartNumber: DS10CP152QMACT-ND; Code_JEDEC: MS-012-AC; Code_IPC: SOIC127P600-16; ComponentLink1Description: DS10CP152Q Datasheet; ComponentLink1URL: http://www.national.com/ds/DS/DS10CP152Q.pdf; ComponentLink2Description: DS10CP152Q Web Page; ComponentLink2URL: http://www.national.com/pf/DS/DS10CP152Q.html; ComponentLink3Description: M16A Package Page; ComponentLink3URL: http://www.national.com/packaging/folders/m16a.html
footprint M16A_N (SOIC, 16-Leads, Body 9.9x3.9mm, Pitch 1.27mm, IPC Medium Density)
footprint M16A_L (SOIC, 16-Leads, Body 9.9x3.9mm, Pitch 1.27mm, IPC High Density)
footprint M16A_M (SOIC, 16-Leads, Body 9.9x3.9mm, Pitch 1.27mm, IPC Low Density)
pins: 1 SEL1 (in), 2 SEL0 (in), 3 IN0+ (in), 4 IN0- (in), 5 VDD (power), 6 IN1+ (in), 7 IN1- (in), 8 NC , 9 NC , 10 OUT1- (out), 11 OUT1+ (out), 12 GND  (power), 13 OUT0- (out), 14 OUT0+ (out), 15 EN1 (in), 16 EN0 (in)

## DS10CP152TMA
designator U?
1.5 Gbps 2X2 LVDS Crosspoint Switch; PartNumber: DS10CP152TMA; Manufacturer: National Semiconductor; CompType: Interface IC; PackageTopMarking: NSUZXYTT*DS10CP152*TMA; PowerWise: N; Published: 4-Dec-2008; DatasheetVersion: Mar-2008; PackageVersion: revJ, Aug-1995; PackageReference: M16A; Publisher: Altium Limited; PackageDescription: Molded Package, S.O., .150in Wide, 16 Lead; RoHS: Y; PinCount: 16; DigiKeyPartNumber: DS10CP152TMA-ND; Code_JEDEC: MS-012-AC; Code_IPC: SOIC127P600-16; ComponentLink1Description: DS10CP152 Datasheet; ComponentLink1URL: http://www.national.com/ds/DS/DS10CP152.pdf; ComponentLink2Description: DS10CP152 Web Page; ComponentLink2URL: http://www.national.com/pf/DS/DS10CP152.html; ComponentLink3Description: M16A Package Page; ComponentLink3URL: http://www.national.com/packaging/folders/m16a.html
footprint M16A_N (SOIC, 16-Leads, Body 9.9x3.9mm, Pitch 1.27mm, IPC Medium Density)
footprint M16A_L (SOIC, 16-Leads, Body 9.9x3.9mm, Pitch 1.27mm, IPC High Density)
footprint M16A_M (SOIC, 16-Leads, Body 9.9x3.9mm, Pitch 1.27mm, IPC Low Density)
pins: 1 SEL1 (in), 2 SEL0 (in), 3 IN0+ (in), 4 IN0- (in), 5 VDD (power), 6 IN1+ (in), 7 IN1- (in), 8 NC , 9 NC , 10 OUT1- (out), 11 OUT1+ (out), 12 GND  (power), 13 OUT0- (out), 14 OUT0+ (out), 15 EN1 (in), 16 EN0 (in)

## DS10CP154ATSQ
designator U?
1.5 Gbps 4x4 LVDS Crosspoint Switch; PartNumber: DS10CP154ATSQ; Manufacturer: National Semiconductor; CompType: Interface IC; PackageTopMarking: NS*UZXYTT*1CP154AS; PowerWise: Y; Published: 4-Dec-2008; DatasheetVersion: Aug-2008; PackageVersion: revB, Mar-2004; PackageReference: SQA40A; Publisher: Altium Limited; RoHS: Y; PinCount: 40; DigiKeyPartNumber: DS10CP154ATSQCT-ND; ComponentLink1Description: DS10CP154A Datasheet; ComponentLink1URL: http://www.national.com/ds/DS/DS10CP154A.pdf; ComponentLink2Description: DS10CP154A Web Page; ComponentLink2URL: http://www.national.com/pf/DS/DS10CP154A.html; ComponentLink3Description: SQA40A Package Page; ComponentLink3URL: http://www.national.com/packaging/folders/sqa40a.html
footprint SQA40A (QFN, 40-Leads, Body 6x6mm, Pitch 0.5mm, NSC Recommended)
pins: 1 IN0+ (in), 2 IN0- (in), 3 VDD (power), 4 IN1+ (in), 5 IN1- (in), 6 IN2+ (in), 7 IN2- (in), 8 VDD (power), 9 IN3+ (in), 10 IN3- (in), 11 NC, 12 NC, 13 S30 (in), 14 S31 (in), 15 VDD (power), 16 GND (power), 17 EN_SMB (in), 18 NC, 19 NC, 20 NC, 21 OUT3- (out), 22 OUT3+ (out), 23 OUT2- (out), 24 OUT2+ (out), 25 VDD (power), 26 OUT1- (out), 27 OUT1+ (out), 28 OUT0- (out), 29 OUT0+ (out), 30 VDD (power), 31 NC, 32 S21/ADDR3 (io), 33 S20/ADDR2 (io), 34 S11/ADDR1 (io), 35 S10/ADDR0 (io), 36 S01/SDA (io), 37 S00/SCL (io), 38 ~{PWDN} (in), 39 NC, 40 NC, 41 GND (power)

## DS10CP154TSQ
designator U?
1.5 Gbps 4x4 LVDS Crosspoint Switch; PartNumber: DS10CP154TSQ; Manufacturer: National Semiconductor; CompType: Interface IC; PackageTopMarking: NS*UZXYTT*1CP154SQ; Published: 4-Dec-2008; DatasheetVersion: Nov-2007; PackageVersion: revB, Mar-2004; PackageReference: SQA40A; Publisher: Altium Limited; PackageDescription: LLP, Plastic, Quad, 6 x 6 x 0.8mm Body, 40 Lead, 0.5mm Pitch, No Pullback; RoHS: Y; PinCount: 40; DigiKeyPartNumber: DS10CP154TSQTR-ND; ComponentLink1Description: DS10CP154 Datasheet; ComponentLink1URL: http://www.national.com/ds/DS/DS10CP154.pdf; ComponentLink2Description: DS10CP154 Web Page; ComponentLink2URL: http://www.national.com/pf/DS/DS10CP154.html; ComponentLink3Description: SQA40A Package Page; ComponentLink3URL: http://www.national.com/packaging/folders/sqa40a.html
footprint SQA40A (QFN, 40-Leads, Body 6x6mm, Pitch 0.5mm, NSC Recommended)
pins: 1 IN0+ (in), 2 IN0- (in), 3 VDD (power), 4 IN1+ (in), 5 IN1- (in), 6 IN2+ (in), 7 IN2- (in), 8 VDD (power), 9 IN3+ (in), 10 IN3- (in), 11 NC, 12 NC, 13 S30 (in), 14 S31 (in), 15 VDD (power), 16 GND (power), 17 EN_SMB (in), 18 NC, 19 NC, 20 NC, 21 OUT3- (out), 22 OUT3+ (out), 23 OUT2- (out), 24 OUT2+ (out), 25 VDD (power), 26 OUT1- (out), 27 OUT1+ (out), 28 OUT0- (out), 29 OUT0+ (out), 30 VDD (power), 31 NC, 32 S21/ADDR3 (io), 33 S20/ADDR2 (io), 34 S11/ADDR1 (io), 35 S10/ADDR0 (io), 36 S01/SDA (io), 37 S00/SCL (io), 38 ~{PWDN} (in), 39 NC, 40 NC, 41 GND (power)

## DS14C88M
designator U?
Quad CMOS Line Driver; PartNumber: DS14C88M; Manufacturer: National Semiconductor; CompType: Interface IC; PackageTopMarking: NSUZXYTT*DS14C88M; PowerWise: N; Published: 4-Dec-2008; DatasheetVersion: May-1998; PackageVersion: revJ, Jan-1996; PackageReference: M14A; Publisher: Altium Limited; PackageDescription: Molded Package, S.O., .150in Wide, 14 Lead; RoHS: O; PinCount: 14; DigiKeyPartNumber: DS14C88M-ND; Code_JEDEC: MS-012AB; Code_IPC: SOIC127P600-14; ComponentLink1Description: DS14C88 Datasheet; ComponentLink1URL: http://www.national.com/ds/DS/DS14C88.pdf; ComponentLink2Description: DS14C88 Web Page; ComponentLink2URL: http://www.national.com/pf/DS/DS14C88.html; ComponentLink3Description: M14A Package Page; ComponentLink3URL: http://www.national.com/packaging/folders/m14a.html
footprint M14A_N (SOIC, 14-Leads, Body 8.6x3.9mm, Pitch 1.27mm, IPC Medium Density)
footprint M14A_L (SOIC, 14-Leads, Body 8.6x3.9mm, Pitch 1.27mm, IPC High Density)
footprint M14A_M (SOIC, 14-Leads, Body 8.6x3.9mm, Pitch 1.27mm, IPC Low Density)
pins: 1 V- (power), 2 INA (in), 3 OUTA (out), 4 INB1 (in), 5 INB2 (in), 6 OUTB (out), 7 GND (power), 8 OUTC (out), 9 INC1 (in), 10 INC2 (in), 11 OUTD (out), 12 IND1 (in), 13 IND2 (in), 14 V+ (power)

## DS14C88N
designator U?
Quad CMOS Line Driver; PartNumber: DS14C88N; Manufacturer: National Semiconductor; CompType: Interface IC; PackageTopMarking: NSUZXYYTTE#*DS14C88N; PowerWise: N; Published: 4-Dec-2008; DatasheetVersion: May-1998; PackageVersion: revG, May-2006; PackageReference: N14A; Publisher: Altium Limited; PackageDescription: MDIP, .750 x .250 x .130in, 14 Lead, .100in Pitch; RoHS: O; PinCount: 14; DigiKeyPartNumber: DS14C88N-ND; Code_JEDEC: MS-001-AA; ComponentLink1Description: DS14C88 Datasheet; ComponentLink1URL: http://www.national.com/ds/DS/DS14C88.pdf; ComponentLink2Description: DS14C88 Web Page; ComponentLink2URL: http://www.national.com/pf/DS/DS14C88.html; ComponentLink3Description: N14A Package Page; ComponentLink3URL: http://www.national.com/packaging/folders/n14a.html
footprint N14A (DIP, 14-Leads, Row Spacing 7.62mm, Pitch 2.54mm, Body 19.56x6.35mm)
pins: 1 V- (power), 2 INA (in), 3 OUTA (out), 4 INB1 (in), 5 INB2 (in), 6 OUTB (out), 7 GND (power), 8 OUTC (out), 9 INC1 (in), 10 INC2 (in), 11 OUTD (out), 12 IND1 (in), 13 IND2 (in), 14 V+ (power)

## DS14C89AM
designator U?
Quad CMOS Receiver; PartNumber: DS14C89AM; Manufacturer: National Semiconductor; CompType: Interface IC; PackageTopMarking: NSUZXYTT*DS14C89AM; PowerWise: N; Published: 4-Dec-2008; DatasheetVersion: May-1998; PackageVersion: revJ, Jan-1996; PackageReference: M14A; Publisher: Altium Limited; PackageDescription: Molded Package, S.O., .150in Wide, 14 Lead; RoHS: O; PinCount: 14; DigiKeyPartNumber: DS14C89AM-ND; Code_JEDEC: MS-012AB; Code_IPC: SOIC127P600-14; ComponentLink1Description: DS14C89A Datasheet; ComponentLink1URL: http://www.national.com/ds/DS/DS14C89A.pdf; ComponentLink2Description: DS14C89A Web Page; ComponentLink2URL: http://www.national.com/pf/DS/DS14C89A.html; ComponentLink3Description: M14A Package Page; ComponentLink3URL: http://www.national.com/packaging/folders/m14a.html
footprint M14A_N (SOIC, 14-Leads, Body 8.6x3.9mm, Pitch 1.27mm, IPC Medium Density)
footprint M14A_L (SOIC, 14-Leads, Body 8.6x3.9mm, Pitch 1.27mm, IPC High Density)
footprint M14A_M (SOIC, 14-Leads, Body 8.6x3.9mm, Pitch 1.27mm, IPC Low Density)
pins: 1 INA (in), 2 NC, 3 OUTA (out), 4 INB (in), 5 NC, 6 OUTB (out), 7 GND (power), 8 OUTC (out), 9 NC, 10 INC (in), 11 OUTD (out), 12 NC, 13 IND (in), 14 VCC (power)

## DS14C89AN
designator U?
Quad CMOS Receiver; PartNumber: DS14C89AN; Manufacturer: National Semiconductor; CompType: Interface IC; PackageTopMarking: NSUZXYYTTE#*DS14C89AN; PowerWise: N; Published: 4-Dec-2008; DatasheetVersion: May-1998; PackageVersion: revG, May-2006; PackageReference: N14A; Publisher: Altium Limited; PackageDescription: MDIP, .750 x .250 x .130in, 14 Lead, .100in Pitch; RoHS: O; PinCount: 14; DigiKeyPartNumber: DS14C89AN-ND; Code_JEDEC: MS-001-AA; ComponentLink1Description: DS14C89A Datasheet; ComponentLink1URL: http://www.national.com/ds/DS/DS14C89A.pdf; ComponentLink2Description: DS14C89A Web Page; ComponentLink2URL: http://www.national.com/pf/DS/DS14C89A.html; ComponentLink3Description: N14A Package Page; ComponentLink3URL: http://www.national.com/packaging/folders/n14a.html
footprint N14A (DIP, 14-Leads, Row Spacing 7.62mm, Pitch 2.54mm, Body 19.56x6.35mm)
pins: 1 INA (in), 2 NC, 3 OUTA (out), 4 INB (in), 5 NC, 6 OUTB (out), 7 GND (power), 8 OUTC (out), 9 NC, 10 INC (in), 11 OUTD (out), 12 NC, 13 IND (in), 14 VCC (power)

## DS14C232CM
designator U?
Low-Power +5V Powered TIA/EIA-232 Dual Driver/Receiver; PartNumber: DS14C232CM; Manufacturer: National Semiconductor; CompType: Interface IC; PackageTopMarking: NSUZXYTT*DS14C232CM; PowerWise: N; Published: 4-Dec-2008; DatasheetVersion: Oct-1999; PackageVersion: revJ, Aug-1995; PackageReference: M16A; Publisher: Altium Limited; PackageDescription: Molded Package, S.O., .150in Wide, 16 Lead; RoHS: O; PinCount: 16; DigiKeyPartNumber: DS14C232CM-ND; Code_JEDEC: MS-012-AC; Code_IPC: SOIC127P600-16; ComponentLink1Description: DS14C232 Datasheet; ComponentLink1URL: http://www.national.com/ds/DS/DS14C232.pdf; ComponentLink2Description: DS14C232 Web Page; ComponentLink2URL: http://www.national.com/pf/DS/DS14C232.html; ComponentLink3Description: M16A Package Page; ComponentLink3URL: http://www.national.com/packaging/folders/m16a.html
footprint M16A_N (SOIC, 16-Leads, Body 9.9x3.9mm, Pitch 1.27mm, IPC Medium Density)
footprint M16A_L (SOIC, 16-Leads, Body 9.9x3.9mm, Pitch 1.27mm, IPC High Density)
footprint M16A_M (SOIC, 16-Leads, Body 9.9x3.9mm, Pitch 1.27mm, IPC Low Density)
pins: 1 C1+, 2 V+ (power), 3 C1-, 4 C2+, 5 C2-, 6 V- (power), 7 DOUT (out), 8 RIN (in), 9 ROUT (out), 10 DIN (in), 11 DIN (in), 12 ROUT (out), 13 RIN (in), 14 DOUT (out), 15 GND (power), 16 VCC (power)
text: D1; D2; R1; R2

## DS14C232CN
designator U?
Low-Power +5V Powered TIA/EIA-232 Dual Driver/Receiver; PartNumber: DS14C232CN; Manufacturer: National Semiconductor; CompType: Interface IC; PackageTopMarking: NSUZXYYTT*DS14C232CN; PowerWise: N; Published: 4-Dec-2008; DatasheetVersion: Oct-1999; PackageVersion: revG, May-2006; PackageReference: N16E; Publisher: Altium Limited; PackageDescription: MDIP, .750 x .250 x.130in, 16 Lead, .100in Pitch; RoHS: O; PinCount: 16; DigiKeyPartNumber: DS14C232CN-ND; Code_JEDEC: MS-001-BB; ComponentLink1Description: DS14C232 Datasheet; ComponentLink1URL: http://www.national.com/ds/DS/DS14C232.pdf; ComponentLink2Description: DS14C232 Web Page; ComponentLink2URL: http://www.national.com/pf/DS/DS14C232.html; ComponentLink3Description: N16E Package Page; ComponentLink3URL: http://www.national.com/packaging/folders/n16e.html
footprint N16E (DIP, 16-Leads, Row Spacing 7.62mm, Pitch 2.54mm, Body 19.3x6.35mm)
pins: 1 C1+, 2 V+ (power), 3 C1-, 4 C2+, 5 C2-, 6 V- (power), 7 DOUT (out), 8 RIN (in), 9 ROUT (out), 10 DIN (in), 11 DIN (in), 12 ROUT (out), 13 RIN (in), 14 DOUT (out), 15 GND (power), 16 VCC (power)
text: D1; D2; R1; R2

## DS14C232TM
designator U?
Low-Power +5V Powered TIA/EIA-232 Dual Driver/Receiver; PartNumber: DS14C232TM; Manufacturer: National Semiconductor; CompType: Interface IC; PackageTopMarking: NSUZXYTT*DS14C232TM; PowerWise: N; Published: 4-Dec-2008; DatasheetVersion: Oct-1999; PackageVersion: revJ, Aug-1995; PackageReference: M16A; Publisher: Altium Limited; PackageDescription: Molded Package, S.O., .150in Wide, 16 Lead; RoHS: O; PinCount: 16; DigiKeyPartNumber: DS14C232TM-ND; Code_JEDEC: MS-012-AC; Code_IPC: SOIC127P600-16; ComponentLink1Description: DS14C232 Datasheet; ComponentLink1URL: http://www.national.com/ds/DS/DS14C232.pdf; ComponentLink2Description: DS14C232 Web Page; ComponentLink2URL: http://www.national.com/pf/DS/DS14C232.html; ComponentLink3Description: M16A Package Page; ComponentLink3URL: http://www.national.com/packaging/folders/m16a.html
footprint M16A_N (SOIC, 16-Leads, Body 9.9x3.9mm, Pitch 1.27mm, IPC Medium Density)
footprint M16A_L (SOIC, 16-Leads, Body 9.9x3.9mm, Pitch 1.27mm, IPC High Density)
footprint M16A_M (SOIC, 16-Leads, Body 9.9x3.9mm, Pitch 1.27mm, IPC Low Density)
pins: 1 C1+, 2 V+ (power), 3 C1-, 4 C2+, 5 C2-, 6 V- (power), 7 DOUT (out), 8 RIN (in), 9 ROUT (out), 10 DIN (in), 11 DIN (in), 12 ROUT (out), 13 RIN (in), 14 DOUT (out), 15 GND (power), 16 VCC (power)
text: D1; D2; R1; R2

## DS14C238WM
designator U?
Single-Supply TIA/EIA-232 4x4 Driver/Receiver; PartNumber: DS14C238WM; Manufacturer: National Semiconductor; CompType: Interface IC; PackageTopMarking: NSUZXYTT*DS14C238WM; Published: 4-Dec-2008; DatasheetVersion: Jul-2002; PackageVersion: revF, Apr-1990; PackageReference: M24B; Publisher: Altium Limited; PackageDescription: Molded Package, S.O., .300in Wide, 24 Lead; RoHS: Y; PinCount: 24; DigiKeyPartNumber: DS14C238WM-ND; ComponentLink1Description: DS14C238 Datasheet; ComponentLink1URL: http://www.national.com/ds/DS/DS14C238.pdf; ComponentLink2Description: DS14C238 Web Page; ComponentLink2URL: http://www.national.com/pf/DS/DS14C238.html; ComponentLink3Description: M24B Package Page; ComponentLink3URL: http://www.national.com/packaging/folders/m24b.html
footprint M24B_N (SOIC, 24-Leads, Body 15.4x7.5mm, Pitch 1.27mm, IPC Medium Density)
footprint M24B_L (SOIC, 24-Leads, Body 15.4x7.5mm, Pitch 1.27mm, IPC High Density)
footprint M24B_M (SOIC, 24-Leads, Body 15.4x7.5mm, Pitch 1.27mm, IPC Low Density)
pins: 1 DOUT2 (out), 2 DOUT1 (out), 3 RIN2 (in), 4 ROUT2 (out), 5 DIN1 (in), 6 ROUT1 (out), 7 RIN1 (in), 8 GND (power), 9 VCC (power), 10 C1+, 11 V+ (power), 12 C1-, 13 C2+, 14 C2-, 15 V- (power), 16 RIN4 (in), 17 ROUT4 (out), 18 DIN2 (in), 19 DIN3 (in), 20 DOUT4 (out), 21 DIN4 (in), 22 ROUT3 (out), 23 RIN3 (in), 24 DOUT3 (out)

## DS14C241WM
designator U?
Single-Supply TIA/EIA-232 4x5 Driver/Receiver; PartNumber: DS14C241WM; Manufacturer: National Semiconductor; CompType: Interface IC; PackageTopMarking: NSUZXYTT*DS14C241WM; Published: 4-Dec-2008; DatasheetVersion: May-1998; PackageVersion: revB, Nov-1997; PackageReference: M28B; Publisher: Altium Limited; PackageDescription: Molded Package, S.O., .300in Wide, 28 Lead; RoHS: Y; PinCount: 28; DigiKeyPartNumber: DS14C241WM-ND; ComponentLink1Description: DS14C241 Datasheet; ComponentLink1URL: http://www.national.com/ds/DS/DS14C241.pdf; ComponentLink2Description: DS14C241 Web Page; ComponentLink2URL: http://www.national.com/pf/DS/DS14C241.html; ComponentLink3Description: M28B Package Page; ComponentLink3URL: http://www.national.com/packaging/folders/m28b.html
footprint M28B_N (SOIC, 28-Leads, Body 17.9x7.5mm, Pitch 1.27mm, IPC Medium Density)
footprint M28B_L (SOIC, 28-Leads, Body 17.9x7.5mm, Pitch 1.27mm, IPC High Density)
footprint M28B_M (SOIC, 28-Leads, Body 17.9x7.5mm, Pitch 1.27mm, IPC Low Density)
pins: 1 DOUT (out), 2 DOUT (out), 3 DOUT (out), 4 RIN (in), 5 ROUT (hiz), 6 DIN (in), 7 DIN (in), 8 ROUT (hiz), 9 RIN (in), 10 GND (power), 11 VCC (power), 12 C1+, 13 V+ (power), 14 C1-, 15 C2+, 16 C2-, 17 V- (power), 18 RIN (in), 19 ROUT (hiz), 20 DIN (in), 21 DIN (in), 22 ROUT (hiz), 23 RIN (in), 24 ~{EN} (in), 25 SHDN (in), 26 ROUT (hiz), 27 RIN (in), 28 DOUT (out)
text: D1; D2; D3; D4; R1; R2; R3; R4; R5

## DS14C335MSA
designator U?
+3.3V Supply TIA/EIA-232 3x5 Driver/Receiver; PartNumber: DS14C335MSA; Manufacturer: National Semiconductor; CompType: Interface IC; PackageTopMarking: NSUZXYTT*DS14C335*MSA; PowerWise: N; Published: 4-Dec-2008; DatasheetVersion: Mar-2000; PackageVersion: revB, Jan-2000; PackageReference: MSA28; Publisher: Altium Limited; PackageDescription: Molded SSOP, 5.3mm Body Width, 0.65mm Pitch, EIAJ, Type II, 28 Lead; RoHS: O; PinCount: 28; DigiKeyPartNumber: DS14C335MSA-ND; Code_IPC: SOP65P780-28; ComponentLink1Description: DS14C335 Datasheet; ComponentLink1URL: http://www.national.com/ds/DS/DS14C335.pdf; ComponentLink2Description: DS14C335 Web Page; ComponentLink2URL: http://www.national.com/pf/DS/DS14C335.html; ComponentLink3Description: MSA28 Package Page; ComponentLink3URL: http://www.national.com/packaging/folders/msa28.html
footprint MSA28_N (SOP, 28-Leads, Body 10.2x5.3mm, Pitch 0.65mm, IPC Medium Density)
footprint MSA28_L (SOP, 28-Leads, Body 10.2x5.3mm, Pitch 0.65mm, IPC High Density)
footprint MSA28_M (SOP, 28-Leads, Body 10.2x5.3mm, Pitch 0.65mm, IPC Low Density)
pins: 1 V+ (power), 2 C2+, 3 VCC (power), 4 C2-, 5 GND (power), 6 C1+, 7 DIN (in), 8 DIN (in), 9 DIN (in), 10 ROUT1 (out), 11 ROUT2 (out), 12 ROUT3 (out), 13 ROUT4 (out), 14 ROUT5 (out), 15 RIN5 (in), 16 RIN4 (in), 17 RIN3 (in), 18 RIN2 (in), 19 RIN1 (in), 20 DOUT (out), 21 DOUT (out), 22 DOUT (out), 23 SHDN (in), 24 C1-, 25 V- (power), 26 C3-, 27 GND (power), 28 C3+
text: D1; D2; D3

## DS14C535MSA
designator U?
+5V Supply EIA/TIA-232 3x5 Driver/Receiver; PartNumber: DS14C535MSA; Manufacturer: National Semiconductor; CompType: Interface IC; PackageTopMarking: NSUZXYTT*DS14C535*MSA; PowerWise: N; Published: 4-Dec-2008; DatasheetVersion: May-1998; PackageVersion: revB, Jan-2000; PackageReference: MSA28; Publisher: Altium Limited; PackageDescription: Molded SSOP, 5.3mm Body Width, 0.65mm Pitch, EIAJ, Type II, 28 Lead; RoHS: Y; PinCount: 28; DigiKeyPartNumber: DS14C535MSA-ND; Code_IPC: SOP65P780-28; ComponentLink1Description: DS14C535 Datasheet; ComponentLink1URL: http://www.national.com/ds/DS/DS14C535.pdf; ComponentLink2Description: DS14C535 Web Page; ComponentLink2URL: http://www.national.com/pf/DS/DS14C535.html; ComponentLink3Description: MSA28 Package Page; ComponentLink3URL: http://www.national.com/packaging/folders/msa28.html
footprint MSA28_N (SOP, 28-Leads, Body 10.2x5.3mm, Pitch 0.65mm, IPC Medium Density)
footprint MSA28_L (SOP, 28-Leads, Body 10.2x5.3mm, Pitch 0.65mm, IPC High Density)
footprint MSA28_M (SOP, 28-Leads, Body 10.2x5.3mm, Pitch 0.65mm, IPC Low Density)
pins: 1 V+ (power), 2 C1+, 3 VCC (power), 4 C1-, 5 GND (power), 6 NC, 7 DIN (in), 8 DIN (in), 9 DIN (in), 10 ROUT1 (out), 11 ROUT2 (out), 12 ROUT3 (out), 13 ROUT4 (out), 14 ROUT5 (out), 15 RIN5 (in), 16 RIN4 (in), 17 RIN3 (in), 18 RIN2 (in), 19 RIN1 (in), 20 DOUT (out), 21 DOUT (out), 22 DOUT (out), 23 SHDN (in), 24 NC, 25 V- (power), 26 C2-, 27 GND (power), 28 C2+
text: D1; D2; D3

## DS15BA101SD
designator U?
1.5 Gbps Differential Buffer with Adjustable Output Voltage; PartNumber: DS15BA101SD; Manufacturer: National Semiconductor; CompType: Interface IC; PackageTopMarking: ZXYTT*BA101; PowerWise: N; Published: 4-Dec-2008; DatasheetVersion: Apr-2007; PackageVersion: revA, Aug-2003; PackageReference: SDA08A; Publisher: Altium Limited; PackageDescription: LLP, Plastic, Dual, 3 x 3 x 0.8mm Body, 8 Lead, 0.5mm Pitch, No Pullback; RoHS: Y; PinCount: 8; DigiKeyPartNumber: DS15BA101SDTR-ND; ComponentLink1Description: DS15BA101 Datasheet; ComponentLink1URL: http://www.national.com/ds/DS/DS15BA101.pdf; ComponentLink2Description: DS15BA101 Web Page; ComponentLink2URL: http://www.national.com/pf/DS/DS15BA101.html; ComponentLink3Description: SDA08A Package Page; ComponentLink3URL: http://www.national.com/packaging/folders/sda08a.html
footprint SDA08A (SON, 8-Leads, Body 3x3mm, Pitch 0.5mm, NSC Recommended)
pins: 1 IN+ (in), 2 IN- (in), 3 GND  (power), 4 RVO, 5 VCC (power), 6 GND  (power), 7 OUT- (out), 8 OUT+ (out)

## DS15BR400TSQ
designator U?
Four-Channel LVDS Repeaters with Pre-Emphasis; PartNumber: DS15BR400TSQ; Manufacturer: National Semiconductor; CompType: Interface IC; PackageTopMarking: NS*UZXYTT*5R400SQ; PowerWise: N; Published: 4-Dec-2008; DatasheetVersion: May-2007; PackageVersion: revA, Jul-2004; PackageReference: SQA32A; Publisher: Altium Limited; PackageDescription: LLP, Quad, 5 x 5 x 0.8mm, 32 Lead, 0.5mm Pitch, No Pullback, 3.1 x 3.1mm Exposed Pad; RoHS: O; PinCount: 32; DigiKeyPartNumber: DS15BR400TSQ-ND; ComponentLink1Description: DS15BR400 Datasheet; ComponentLink1URL: http://www.national.com/ds/DS/DS15BR400.pdf; ComponentLink2Description: DS15BR400 Web Page; ComponentLink2URL: http://www.national.com/pf/DS/DS15BR400.html; ComponentLink3Description: SQA32A Package Page; ComponentLink3URL: http://www.national.com/packaging/folders/sqa32a.html
footprint SQA32A (QFN, 32-Leads, Body 5x5mm, Pitch 0.5mm, NSC Recommended)
pins: 1 NC, 2 PEM (in), 3 VDD (power), 4 VDD (power), 5 GND (power), 6 VDD (power), 7 VDD (power), 8 ~{PWDN} (in), 9 IN0+ (in), 10 IN0- (in), 11 IN1+ (in), 12 IN1- (in), 13 IN2+ (in), 14 IN2- (in), 15 IN3+ (in), 16 IN3- (in), 17 NC, 18 NC, 19 NC, 20 VDD (power), 21 VDD (power), 22 NC, 23 NC, 24 NC, 25 OUT3- (out), 26 OUT3+ (out), 27 OUT2- (out), 28 OUT2+ (out), 29 OUT1- (out), 30 OUT1+ (out), 31 OUT0- (out), 32 OUT0+ (out), 33 GND (power)

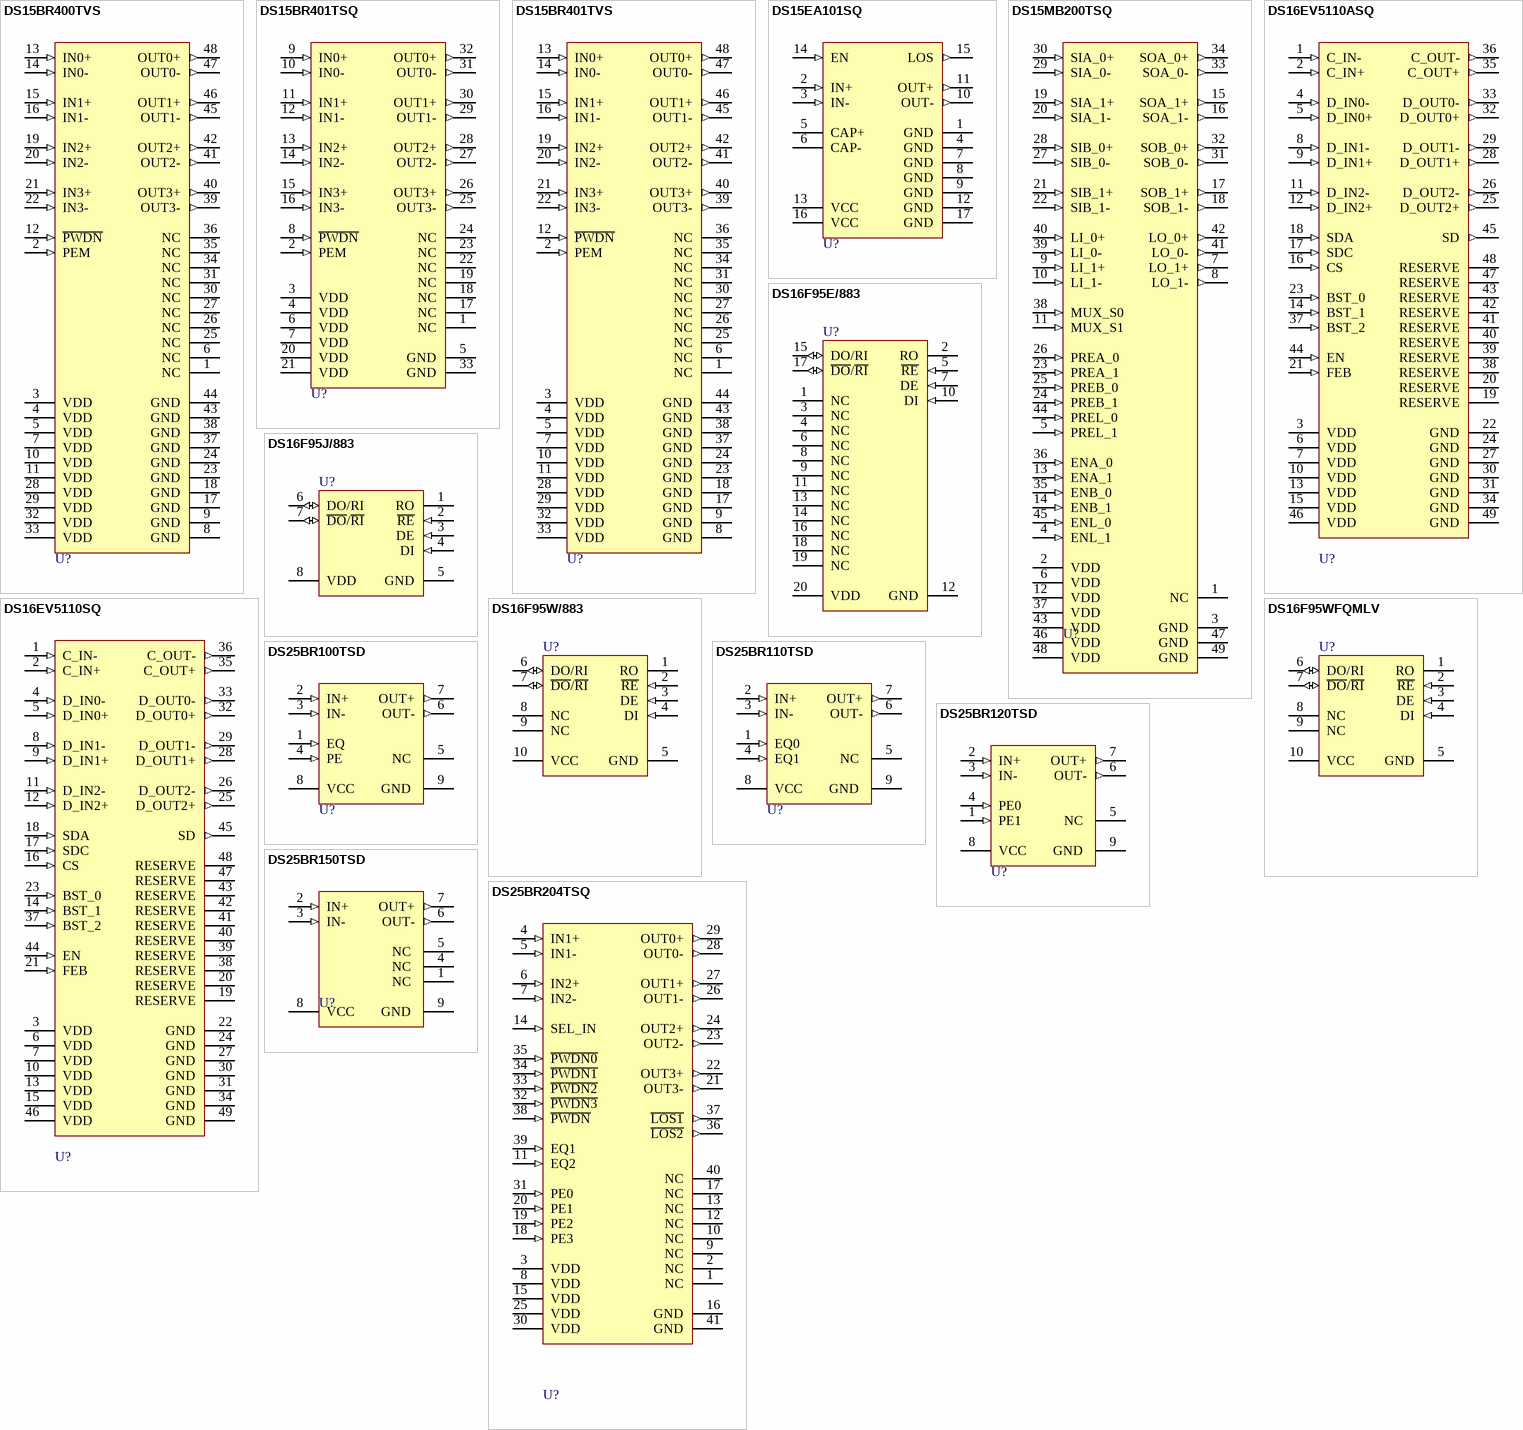
[diagram p7: symbols DS15BR400TVS to DS25BR204TSQ]

## DS15BR400TVS
designator U?
Four-Channel LVDS Repeaters with Pre-Emphasis; PartNumber: DS15BR400TVS; Manufacturer: National Semiconductor; CompType: Interface IC; PackageTopMarking: NSUZXYTT*DS15BR*400TVS; PowerWise: N; Published: 4-Dec-2008; DatasheetVersion: May-2007; PackageVersion: revA, Apr-2000; PackageReference: VBC48A; Publisher: Altium Limited; PackageDescription: TQFP, Jedec Metric, 7 x 7 x 1mm, 48 Lead, 0.5mm Pitch; RoHS: Y; PinCount: 48; DigiKeyPartNumber: DS15BR400TVS-ND; Code_JEDEC: MS-026-ABC; ComponentLink1Description: DS15BR400 Datasheet; ComponentLink1URL: http://www.national.com/ds/DS/DS15BR400.pdf; ComponentLink2Description: DS15BR400 Web Page; ComponentLink2URL: http://www.national.com/pf/DS/DS15BR400.html; ComponentLink3Description: VBC48A Package Page; ComponentLink3URL: http://www.national.com/packaging/folders/vbc48a.html
footprint VBC48A_N (Thin QFP, 48-Leads, Body 7x7mm, Pitch 0.5mm, IPC Medium Density)
footprint VBC48A_L (Thin QFP, 48-Leads, Body 7x7mm, Pitch 0.5mm, IPC High Density)
footprint VBC48A_M (Thin QFP, 48-Leads, Body 7x7mm, Pitch 0.5mm, IPC Low Density)
pins: 1 NC, 2 PEM (in), 3 VDD (power), 4 VDD (power), 5 VDD (power), 6 NC, 7 VDD (power), 8 GND (power), 9 GND (power), 10 VDD (power), 11 VDD (power), 12 ~{PWDN} (in), 13 IN0+ (in), 14 IN0- (in), 15 IN1+ (in), 16 IN1- (in), 17 GND (power), 18 GND (power), 19 IN2+ (in), 20 IN2- (in), 21 IN3+ (in), 22 IN3- (in), 23 GND (power), 24 GND (power), 25 NC, 26 NC, 27 NC, 28 VDD (power), 29 VDD (power), 30 NC, 31 NC, 32 VDD (power), 33 VDD (power), 34 NC, 35 NC, 36 NC, 37 GND (power), 38 GND (power), 39 OUT3- (out), 40 OUT3+ (out), 41 OUT2- (out), 42 OUT2+ (out), 43 GND (power), 44 GND (power), 45 OUT1- (out), 46 OUT1+ (out), 47 OUT0- (out), 48 OUT0+ (out)

## DS15BR401TSQ
designator U?
Four-Channel LVDS Repeaters with Pre-Emphasis; PartNumber: DS15BR401TSQ; Manufacturer: National Semiconductor; CompType: Interface IC; PackageTopMarking: NS*UZXYTT*5R401SQ; PowerWise: N; Published: 4-Dec-2008; DatasheetVersion: May-2007; PackageVersion: revA, Jul-2004; PackageReference: SQA32A; Publisher: Altium Limited; PackageDescription: LLP, Quad, 5 x 5 x 0.8mm, 32 Lead, 0.5mm Pitch, No Pullback, 3.1 x 3.1mm Exposed Pad; RoHS: Y; PinCount: 32; DigiKeyPartNumber: DS15BR401TSQ-ND; ComponentLink1Description: DS15BR401 Datasheet; ComponentLink1URL: http://www.national.com/ds/DS/DS15BR401.pdf; ComponentLink2Description: DS15BR401 Web Page; ComponentLink2URL: http://www.national.com/pf/DS/DS15BR401.html; ComponentLink3Description: SQA32A Package Page; ComponentLink3URL: http://www.national.com/packaging/folders/sqa32a.html
footprint SQA32A (QFN, 32-Leads, Body 5x5mm, Pitch 0.5mm, NSC Recommended)
pins: 1 NC, 2 PEM (in), 3 VDD (power), 4 VDD (power), 5 GND (power), 6 VDD (power), 7 VDD (power), 8 ~{PWDN} (in), 9 IN0+ (in), 10 IN0- (in), 11 IN1+ (in), 12 IN1- (in), 13 IN2+ (in), 14 IN2- (in), 15 IN3+ (in), 16 IN3- (in), 17 NC, 18 NC, 19 NC, 20 VDD (power), 21 VDD (power), 22 NC, 23 NC, 24 NC, 25 OUT3- (out), 26 OUT3+ (out), 27 OUT2- (out), 28 OUT2+ (out), 29 OUT1- (out), 30 OUT1+ (out), 31 OUT0- (out), 32 OUT0+ (out), 33 GND (power)

## DS15BR401TVS
designator U?
Four-Channel LVDS Repeaters with Pre-Emphasis; PartNumber: DS15BR401TVS; Manufacturer: National Semiconductor; CompType: Interface IC; PackageTopMarking: NSUZXYTT*DS15BR*401TVS; PowerWise: N; Published: 4-Dec-2008; DatasheetVersion: May-2007; PackageVersion: revA, Apr-2000; PackageReference: VBC48A; Publisher: Altium Limited; PackageDescription: TQFP, Jedec Metric, 7 x 7 x 1mm, 48 Lead, 0.5mm Pitch; RoHS: Y; PinCount: 48; DigiKeyPartNumber: DS15BR401TVS-ND; Code_JEDEC: MS-026-ABC; ComponentLink1Description: DS15BR401 Datasheet; ComponentLink1URL: http://www.national.com/ds/DS/DS15BR401.pdf; ComponentLink2Description: DS15BR401 Web Page; ComponentLink2URL: http://www.national.com/pf/DS/DS15BR401.html; ComponentLink3Description: VBC48A Package Page; ComponentLink3URL: http://www.national.com/packaging/folders/vbc48a.html
footprint VBC48A_N (Thin QFP, 48-Leads, Body 7x7mm, Pitch 0.5mm, IPC Medium Density)
footprint VBC48A_L (Thin QFP, 48-Leads, Body 7x7mm, Pitch 0.5mm, IPC High Density)
footprint VBC48A_M (Thin QFP, 48-Leads, Body 7x7mm, Pitch 0.5mm, IPC Low Density)
pins: 1 NC, 2 PEM (in), 3 VDD (power), 4 VDD (power), 5 VDD (power), 6 NC, 7 VDD (power), 8 GND (power), 9 GND (power), 10 VDD (power), 11 VDD (power), 12 ~{PWDN} (in), 13 IN0+ (in), 14 IN0- (in), 15 IN1+ (in), 16 IN1- (in), 17 GND (power), 18 GND (power), 19 IN2+ (in), 20 IN2- (in), 21 IN3+ (in), 22 IN3- (in), 23 GND (power), 24 GND (power), 25 NC, 26 NC, 27 NC, 28 VDD (power), 29 VDD (power), 30 NC, 31 NC, 32 VDD (power), 33 VDD (power), 34 NC, 35 NC, 36 NC, 37 GND (power), 38 GND (power), 39 OUT3- (out), 40 OUT3+ (out), 41 OUT2- (out), 42 OUT2+ (out), 43 GND (power), 44 GND (power), 45 OUT1- (out), 46 OUT1+ (out), 47 OUT0- (out), 48 OUT0+ (out)